# Altium schematic symbol library 集成电路.SchLib: 67 symbols
Pins are listed as number, name and electrical type; pins without a type are passive.

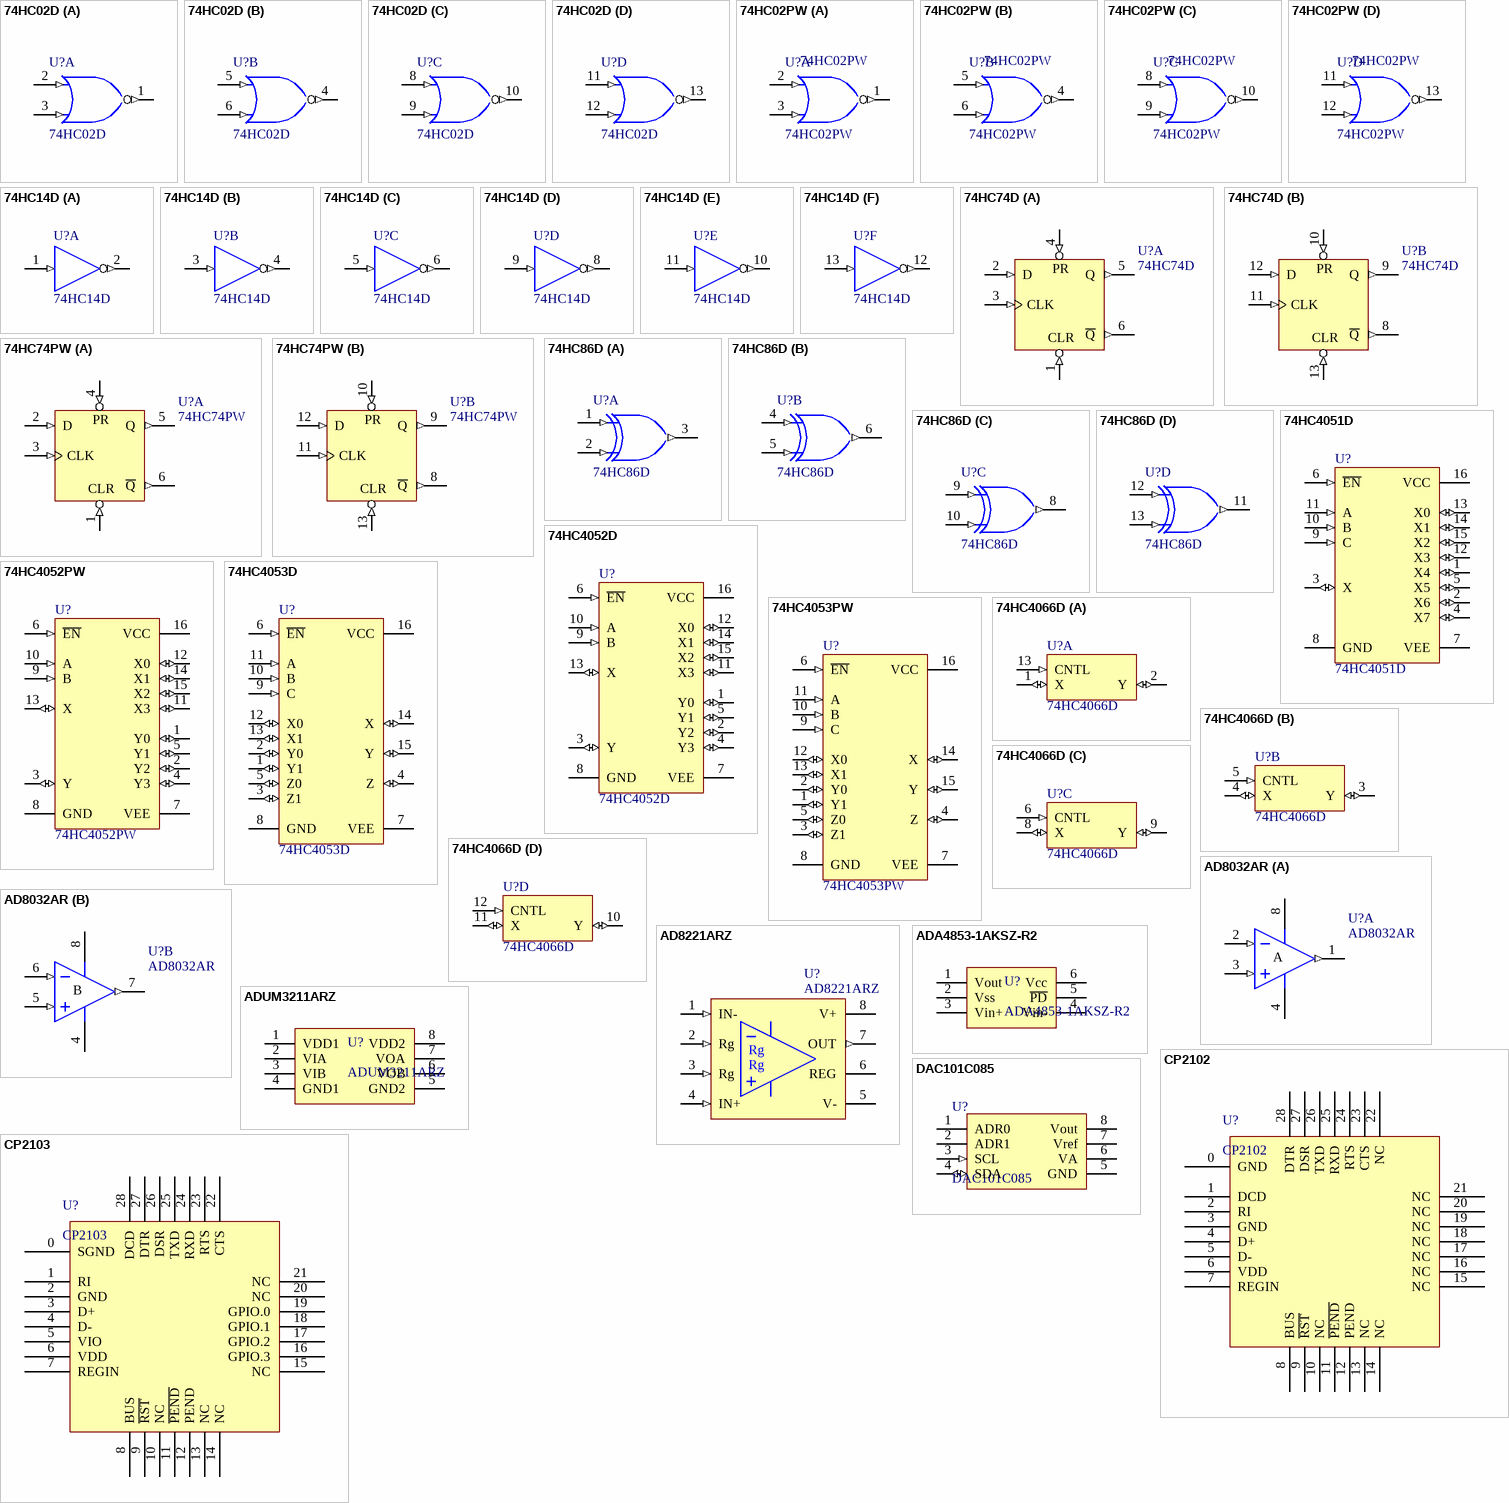
[diagram p0: symbols 74HC02D to DAC101C085]

## 74HC02D
designator U?
Pb-free,74HC系列4路2输入或非门,74HC02D,SO-14,-40~+125℃,NXP; Part Number: 3DZ0020004; specification: Pb-free,74HC系列4路2输入或非门,74HC02D,SO-14,-40~+125℃,NXP; Value: 74HC02D
footprint SO-14
pins on every part: 7 GND (power) hidden to GND, 14 VCC (power) hidden to VCC
part A pins: 1 Y (out), 2 A (in), 3 B (in)
part B pins: 4 Y (out), 5 A (in), 6 B (in)
part C pins: 8 A (in), 9 B (in), 10 Y (out)
part D pins: 11 A (in), 12 B (in), 13 Y (out)

## 74HC02PW
designator U?
Pb-free,74HC系列4路2输入或非门,74HC02PW,TSSOP-14,-40~+125℃,NXP; Part Number: 3DZ0020088; specification: Pb-free,74HC系列4路2输入或非门,74HC02PW,TSSOP-14,-40~+125℃,NXP; Value: 74HC02PW
footprint TSSOP14
pins on every part: 7 GND (power) hidden to GND, 14 VCC (power) hidden to VCC
part A pins: 1 Y (out), 2 A (in), 3 B (in)
part B pins: 4 Y (out), 5 A (in), 6 B (in)
part C pins: 8 A (in), 9 B (in), 10 Y (out)
part D pins: 11 A (in), 12 B (in), 13 Y (out)

## 74HC14D
designator U?
Pb-free,74HC系列6路施密特触发器,74HC14D,SO-14,-40~+125℃,NXP; Part Number: 3DZ0020005; Value: 74HC14D; Specification: Pb-free,74HC系列6路施密特触发器,74HC14D,SO-14,-40~+125℃,NXP
footprint SO-14
pins on every part: 7 GND (power) hidden to GND, 14 VCC (power) hidden to VCC
part A pins: 1 A (in), 2 Y (out)
part B pins: 3 A (in), 4 Y (out)
part C pins: 5 A (in), 6 Y (out)
part D pins: 8 Y (out), 9 A (in)
part E pins: 10 Y (out), 11 A (in)
part F pins: 12 Y (out), 13 A (in)

## 74HC74D
designator U?
Pb-free,74HC系列2路D触发器,74HC74D,,SO-14,-40~+125℃,NXP; Part Number: 3DZ0020013; Specification: Pb-free,74HC系列2路D触发器,74HC74D,,SO-14,-40~+125℃,NXP; Value: 74HC74D
footprint SO-14
pins on every part: 7 GND (power) hidden to GND, 14 VDD (power) hidden to VDD
part A pins: 1 CLR (in), 2 D (in), 3 CLK (in), 4 PR (in), 5 Q (out), 6 ~{Q} (out)
part B pins: 8 ~{Q} (out), 9 Q (out), 10 PR (in), 11 CLK (in), 12 D (in), 13 CLR (in)

## 74HC74PW
designator U?
Pb-free,74HC系列2路D触发器,74HC74PW,TSSOP-14,-40~+125℃,NXP; Part Number: 3DZ0020089; Specification: Pb-free,74HC系列2路D触发器,74HC74PW,TSSOP-14,-40~+125℃,NXP; Value: 74HC74PW
footprint TSSOP14
pins on every part: 7 GND (power) hidden to GND, 14 VDD (power) hidden to VDD
part A pins: 1 CLR (in), 2 D (in), 3 CLK (in), 4 PR (in), 5 Q (out), 6 ~{Q} (out)
part B pins: 8 ~{Q} (out), 9 Q (out), 10 PR (in), 11 CLK (in), 12 D (in), 13 CLR (in)

## 74HC86D
designator U?
Pb-free,74HC系列4路2输入异或门,74HC86D,SO-14,-40~+125℃,NXP; Part Number: 3DZ0020014; Specification: Pb-free,74HC系列4路2输入异或门,74HC86D,SO-14,-40~+125℃,NXP; Value: 74HC86D
footprint SO-14
pins on every part: 7 GND (power) hidden to GND, 14 VDD (power) hidden to VDD
part A pins: 1 A (in), 2 B (in), 3 Y (out)
part B pins: 4 A (in), 5 B (in), 6 Y (out)
part C pins: 8 Y (out), 9 A (in), 10 B (in)
part D pins: 11 Y (out), 12 A (in), 13 B (in)

## 74HC4051D
designator U?
Pb-free,74HC系列8:1模拟开关,74HC4051D,Vcc-Vss=10V(MAX),SO-16,-40~+125℃,NXP; Part Number: 3DZ0020009; Value: 74HC4051D; Specification: Pb-free,74HC系列8:1模拟开关,74HC4051D,Vcc-Vss=10V(MAX),SO-16,-40~+125℃,NXP
footprint SO-16 (Small Outline; 16 Leads; Body Width 5.6 mm; Pitch 1.27 mm)
pins: 1 X4 (io), 2 X6 (io), 3 X (io), 4 X7 (io), 5 X5 (io), 6 ~{EN} (in), 7 VEE (power), 8 GND (power), 9 C (in), 10 B (in), 11 A (in), 12 X3 (io), 13 X0 (io), 14 X1 (io), 15 X2 (io), 16 VCC (power)

## 74HC4052D
designator U?
Pb-free,74HC系列2组4:1模拟开关,74HC4052D,Vcc-Vss=10V(MAX),SO-16,-40~+125℃,NXP; Part Number: 3DZ0020010; specification: Pb-free,74HC系列2组4:1模拟开关,74HC4052D,Vcc-Vss=10V(MAX),SO-16,-40~+125℃,NXP; Value: 74HC4052D
footprint SO-16 (Small Outline; 16 Leads; Body Width 5.6 mm; Pitch 1.27 mm)
pins: 1 Y0 (io), 2 Y2 (io), 3 Y (io), 4 Y3 (io), 5 Y1 (io), 6 ~{EN} (in), 7 VEE (power), 8 GND (power), 9 B (in), 10 A (in), 11 X3 (io), 12 X0 (io), 13 X (io), 14 X1 (io), 15 X2 (io), 16 VCC (power)

## 74HC4052PW
designator U?
Pb-free,74HC系列2组4:1模拟开关,74HC4052PW,Vcc-Vss=10V(MAX),TSSOP-16,-40~+125℃,NXP; Part Number: 3DZ0020090; specification: Pb-free,74HC系列2组4:1模拟开关,74HC4052PW,Vcc-Vss=10V(MAX),TSSOP-16,-40~+125℃,NXP; Value: 74HC4052PW
footprint TSSOP16
pins: 1 Y0 (io), 2 Y2 (io), 3 Y (io), 4 Y3 (io), 5 Y1 (io), 6 ~{EN} (in), 7 VEE (power), 8 GND (power), 9 B (in), 10 A (in), 11 X3 (io), 12 X0 (io), 13 X (io), 14 X1 (io), 15 X2 (io), 16 VCC (power)

## 74HC4053D
designator U?
Pb-free,74HC系列3组2:1模拟开关,74HC4053D,Vcc-Vss=10V(MAX),SO-16,-40~+125℃,NXP; Part Number: 3DZ0020011; specification: Pb-free,74HC系列3组2:1模拟开关,74HC4053D,Vcc-Vss=10V(MAX),SO-16,-40~+125℃,NXP; Value: 74HC4053D
footprint SO-16 (Small Outline; 16 Leads; Body Width 5.6 mm; Pitch 1.27 mm)
pins: 1 Y1 (io), 2 Y0 (io), 3 Z1 (io), 4 Z (io), 5 Z0 (io), 6 ~{EN} (in), 7 VEE (power), 8 GND (power), 9 C (in), 10 B (in), 11 A (in), 12 X0 (io), 13 X1 (io), 14 X (io), 15 Y (io), 16 VCC (power)

## 74HC4053PW
designator U?
Pb-free,74HC系列3组2:1模拟开关,74HC4053PW,Vcc-Vss=10V(MAX),TSSOP-16,-40~+125℃,NXP; Part Number: 3DZ0020091; specification: Pb-free,74HC系列3组2:1模拟开关,74HC4053PW,Vcc-Vss=10V(MAX),TSSOP-16,-40~+125℃,NXP; Value: 74HC4053PW
footprint TSSOP16
pins: 1 Y1 (io), 2 Y0 (io), 3 Z1 (io), 4 Z (io), 5 Z0 (io), 6 ~{EN} (in), 7 VEE (power), 8 GND (power), 9 C (in), 10 B (in), 11 A (in), 12 X0 (io), 13 X1 (io), 14 X (io), 15 Y (io), 16 VCC (power)

## 74HC4066D
designator U?
Pb-free,74HC系列4组1:1模拟开关,74HC4066D,Vcc-Vss=10V(MAX),SO-14,-40~+125℃,NXP; Part Number: 3DZ0020012; specification: Pb-free,74HC系列4组1:1模拟开关,74HC4066D,Vcc-Vss=10V(MAX),SO-14,-40~+125℃,NXP; Value: 74HC4066D
footprint SO-14
pins on every part: 7 GND (power) hidden to GND, 14 VCC (power) hidden to VCC
part A pins: 1 X (io), 2 Y (io), 13 CNTL (in)
part B pins: 3 Y (io), 4 X (io), 5 CNTL (in)
part C pins: 6 CNTL (in), 8 X (io), 9 Y (io)
part D pins: 10 Y (io), 11 X (io), 12 CNTL (in)

## AD8032AR
designator U?
Pb-free,低压轨至轨双运放,AD8032AR,800 uA,带宽:80MHz,低噪运放,电源:+2.7V,+5V,±5V,SOIC-8,-40~+85℃,ADI; Part Number: 3DZ0020015; Specification: 'Pb-free,低压轨至轨双运放,AD8032AR,800 uA,带宽:80MHz,低噪运放,电源:+2.7V,+5V,±5V,SOIC-8,-40~+85℃,ADI; Value: AD8032AR
footprint SO-8 (Small Outline; 8 Leads; Body Width 3.9 mm; Pitch 1.27 mm)
pins on every part: 4 V- (power), 8 V+ (power)
part A pins: 1 OUT (out), 2 IN- (in), 3 IN+ (in)
part B pins: 5 IN+ (in), 6 IN- (in), 7 OUT (out)
part A text: A
part B text: B

## AD8221ARZ
designator U?
Pb-free,增益可调精密仪表放大器,AD8221ARZ,带宽:825kHz(G=1),输入阻抗：100GΩ?pF,低噪运放,电源:±2.3V~±18V,SOIC-8,-40~+85℃,ADI; Part Number: 3DZ0020016; Specification: 'Pb-free,增益可调精密仪表放大器,AD8221ARZ,带宽:825kHz(G=1),输入阻抗：100GΩ?pF,低噪运放,电源:±2.3V~±18V,SOIC-8,-40~+85℃,ADI; Value: AD8221ARZ
footprint SO-8 (Small Outline; 8 Leads; Body Width 3.9 mm; Pitch 1.27 mm)
pins: 1 IN- (in), 2 Rg (in), 3 Rg (in), 4 IN+ (in), 5 V- (power), 6 REG, 7 OUT (out), 8 V+ (power)

## ADA4853-1AKSZ-R2
designator U?
Pb-free,低功耗轨至轨单运放,ADA4853-1AKSZ-R2,带宽:100MHz,低噪运放,电源:+2.65V~+5V,SOT23-6,-40~+85℃,ADI; Part Number: 3DZ0020017; Specification: 'Pb-free,低功耗轨至轨单运放,ADA4853-1AKSZ-R2,带宽:100MHz,低噪运放,电源:+2.65V~+5V,SOT23-6,-40~+85℃,ADI; Value: ADA4853-1AKSZ-R2
footprint SOT23-6 (SOT-23/SC-74A; 5 Leads; Body 3.1 x 3 mm, inc. leads (LxW max))
pins: 1 Vout, 2 Vss, 3 Vin+, 4 Vin-, 5 ~{PD}, 6 Vcc

## ADUM3211ARZ
designator U?
Pb-free,双通道数字隔离器,ADUM3211ARZ,电源：?0.5Vto+7.0V,SO-8,?40°C~+105°C,ADI; Part Number: 3DZ0020072; Value: ADUM3211ARZ; Specification: Pb-free,双通道数字隔离器,ADUM3211ARZ,电源：?0.5Vto+7.0V,SO-8,?40°C~+105°C,ADI
footprint SO-8 (Small Outline; 8 Leads; Body Width 3.9 mm; Pitch 1.27 mm)
pins: 1 VDD1, 2 VIA, 3 VIB, 4 GND1, 5 GND2, 6 VOB, 7 VOA, 8 VDD2

## CP2102
designator U?
Pb-free,USB~UART转换芯片,CP2102,USB2.0(12Mbps),QFN-28,–40~+85°C,Siliconlabs; Part Number: 3DZ0020022; Specification: Pb-free,USB~UART转换芯片,CP2102,USB2.0(12Mbps),QFN-28,–40~+85°C,Siliconlabs; Value: CP2102
footprint QFN28_5*5
pins: 0 GND, 1 DCD, 2 RI, 3 GND, 4 D+, 5 D-, 6 VDD, 7 REGIN, 8 BUS, 9 ~{RST}, 10 NC, 11 ~{PEND}, 12 PEND, 13 NC, 14 NC, 15 NC, 16 NC, 17 NC, 18 NC, 19 NC, 20 NC, 21 NC, 22 NC, 23 CTS, 24 RTS, 25 RXD, 26 TXD, 27 DSR, 28 DTR

## CP2103
designator U?
Pb-free,USB~UART转换芯片,CP2102,USB2.0(12Mbps),QFN-28,–40~+85°C,Siliconlabs; Part Number: 3DZ0020023; Specification: Pb-free,USB~UART转换芯片,CP2103,USB2.0(12Mbps),QFN-28,–40~+85°C,Siliconlabs; Value: CP2103
footprint QFN28_5*5
pins: 0 SGND, 1 RI, 2 GND, 3 D+, 4 D-, 5 VIO, 6 VDD, 7 REGIN, 8 BUS, 9 ~{RST}, 10 NC, 11 ~{PEND}, 12 PEND, 13 NC, 14 NC, 15 NC, 16 GPIO.3, 17 GPIO.2, 18 GPIO.1, 19 GPIO.0, 20 NC, 21 NC, 22 CTS, 23 RTS, 24 RXD, 25 TXD, 26 DSR, 27 DTR, 28 DCD

## DAC101C085
designator U?
Pb-free,10位DAC,DAC101C085,接口:IIC,电源:(+2.7V~+5.5V),VSSOP-8,?40°C~+125°C,TI; Part Number: 3DZ0020024; Specification: 'Pb-free,10位DAC,DAC101C085,接口:IIC,电源:(+2.7V~+5.5V),VSSOP-8,?40°C~+125°C,TI; Value: DAC101C085
footprint TSSOP8
pins: 1 ADR0 (oc), 2 ADR1 (oc), 3 SCL (in), 4 SDA (io), 5 GND (power), 6 VA (power), 7 GND (power) hidden to GND, 7 Vref (power), 8 Vout (power), 14 VDD (power) hidden to VDD

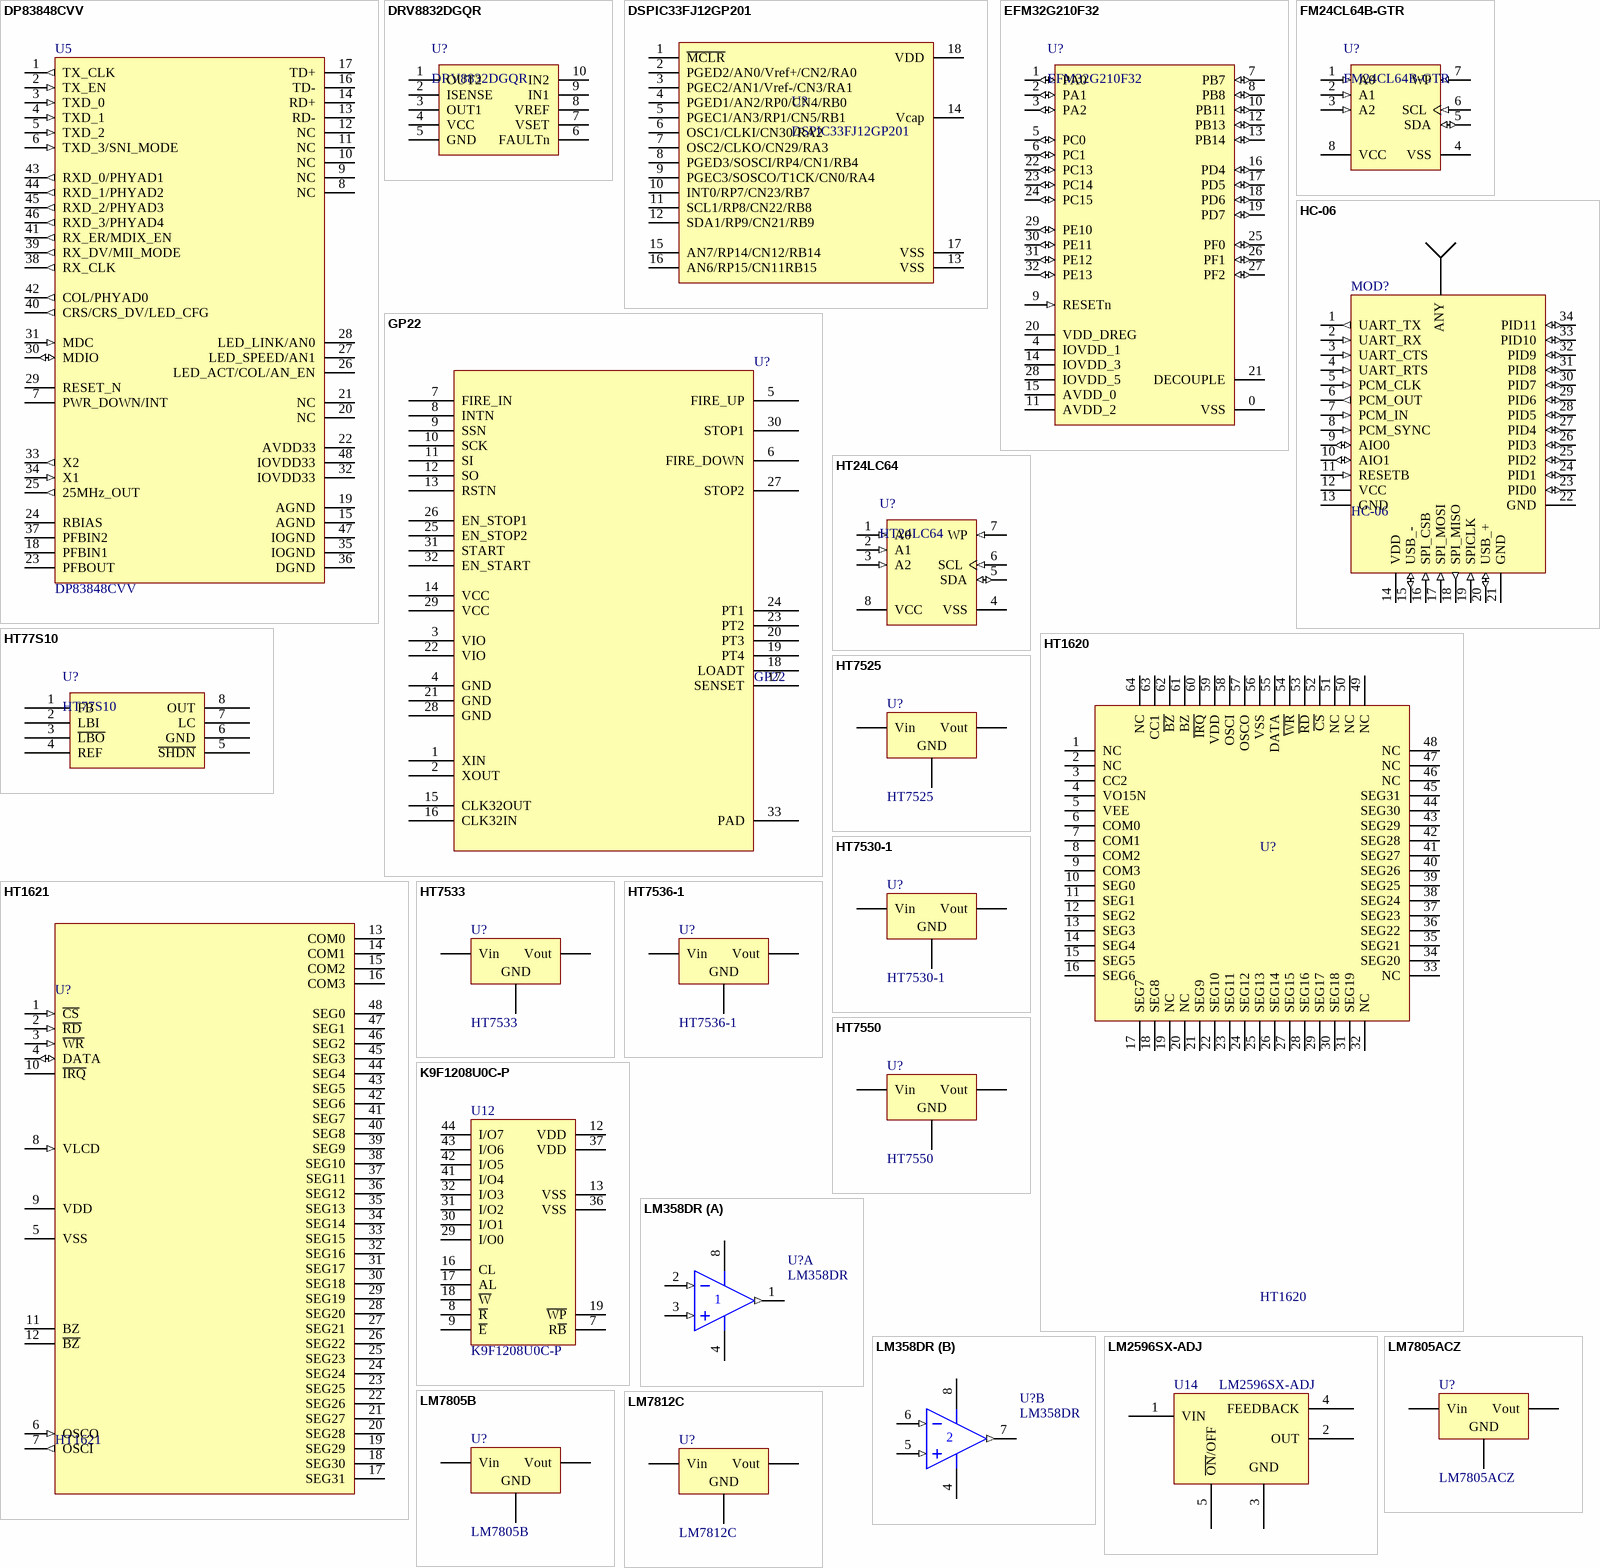
[diagram p1: symbols DP83848CVV to LM7812C]

## DP83848CVV
designator U5
Pb-free,以太网PHY控制器芯片,DP83848CVV,10/100Mb/s,; Part Number: 3DZ0020101; Specification: Pb-free,以太网PHY控制器芯片,DP83848CVV,10/100Mb/s,; Value: DP83848CVV
footprint TQFP-48-0.5 (Thin QFP, 48-Leads, Body 7x7mm, Pitch 0.5mm, IPC Medium Density)
pins: 1 TX_CLK (out), 2 TX_EN (in), 3 TXD_0 (in), 4 TXD_1 (in), 5 TXD_2 (in), 6 TXD_3/SNI_MODE (in), 7 PWR_DOWN/INT, 8 NC, 9 NC, 10 NC, 11 NC, 12 NC, 13 RD-, 14 RD+, 15 AGND, 16 TD-, 17 TD+, 18 PFBIN1, 19 AGND, 20 NC, 21 NC, 22 AVDD33, 23 PFBOUT, 24 RBIAS, 25 25MHz_OUT (out), 26 LED_ACT/COL/AN_EN, 27 LED_SPEED/AN1, 28 LED_LINK/AN0, 29 RESET_N, 30 MDIO (io), 31 MDC (in), 32 IOVDD33, 33 X2 (out), 34 X1 (in), 35 IOGND, 36 DGND, 37 PFBIN2, 38 RX_CLK (out), 39 RX_DV/MII_MODE (out), 40 CRS/CRS_DV/LED_CFG (out), 41 RX_ER/MDIX_EN (out), 42 COL/PHYAD0 (out), 43 RXD_0/PHYAD1 (out), 44 RXD_1/PHYAD2 (out), 45 RXD_2/PHYAD3 (out), 46 RXD_3/PHYAD4 (out), 47 IOGND, 48 IOVDD33

## DRV8832DGQR
designator U?
Pb-free,有刷直流电机驱动,DRV8832DGQR,2.75V~6.8V,1A,MSOP-PowerPAD,-40~85°C,TI; Part Number: 3DZ0020076; Value: DRV8832DGQR; Specification: Pb-free,有刷直流电机驱动,DRV8832DGQR,2.75V~6.8V,1A,MSOP-PowerPAD,-40~85°C,TI
footprint TSSOP10
pins: 1 OUT2, 2 ISENSE, 3 OUT1, 4 VCC, 5 GND, 6 FAULTn, 7 VSET, 8 VREF, 9 IN1, 10 IN2

## DSPIC33FJ12GP201
designator U?
Pb-free,DSP处理器,DSPIC33FJ12GP201-1,40MIPS,SO-18,-40~+85℃,Microchip; Part Number: 3DZ0020069; Value: DSPIC33FJ12GP201; Specification: Pb-free,DSP处理器,DSPIC33FJ12GP201-1,40MIPS,SO-18,-40~+85℃,Microchip
footprint SO-18
pins: 1 ~{MCLR}, 2 PGED2/AN0/Vref+/CN2/RA0, 3 PGEC2/AN1/Vref-/CN3/RA1, 4 PGED1/AN2/RP0/CN4/RB0, 5 PGEC1/AN3/RP1/CN5/RB1, 6 OSC1/CLKI/CN30/RA2, 7 OSC2/CLKO/CN29/RA3, 8 PGED3/SOSCI/RP4/CN1/RB4, 9 PGEC3/SOSCO/T1CK/CN0/RA4, 10 INT0/RP7/CN23/RB7, 11 SCL1/RP8/CN22/RB8, 12 SDA1/RP9/CN21/RB9, 13 VSS, 14 Vcap, 15 AN7/RP14/CN12/RB14, 16 AN6/RP15/CN11RB15, 17 VSS, 18 VDD

## EFM32G210F32
designator U?
Pb-free,32位CortexM3ARM,EFM32TG210F32,32MHz,32KBfalsh,4KRAM,Vcc=1.85~3.8V,QFN-32,-40~85°C,SiliconLabs; Part Number: 3DZ0020085; Specification: Pb-free,32位CortexM3ARM,EFM32TG210F32,32MHz,32KBfalsh,4KRAM,Vcc=1.85~3.8V,QFN-32,-40~85°C,SiliconLabs; Value: EFM32G210F32
footprint QFN32_5*5
pins: 0 VSS (power) "Ground", 1 PA0 (io) "TIM0_CC0#0/1, I2C0_SDA#0", 2 PA1 (io) "TIM0_CC1#0/1, I2C0_SCL#0, CMU_CLK1#0", 3 PA2 (io) "TIM0_CC2#0/1, CMU_CLK0#0", 4 IOVDD_1 (power) "Digital IO power supply 1.", 5 PC0 (io) "ACMP0_CH0, PCNT0_S0IN#2, US1_TX#0", 6 PC1 (io) "ACMP0_CH1, PCNT0_S1IN#2, US1_RX#0", 7 PB7 (io) "LFXTAL_P, US1_CLK#0", 8 PB8 (io) "LFXTAL_N, US1_CS#0", 9 RESETn (in) "Reset input. Active low, with internal pull-up.", 10 PB11 (io) "DAC0_OUT0, LETIM0_OUT0#1", 11 AVDD_2 (power) "Analog power supply 2 .", 12 PB13 (io) "HFXTAL_P, LEU0_TX#1", 13 PB14 (io) "HFXTAL_N, LEU0_RX#1", 14 IOVDD_3 (power) "Digital IO power supply 3.", 15 AVDD_0 (power) "Analog power supply 0.", 16 PD4 (io) "ADC0_CH4, LEU0_TX#0", 17 PD5 (io) "ADC0_CH5, LEU0_RX#0", 18 PD6 (io) "ADC0_CH6, LETIM0_OUT0#0, I2C0_SDA#1", 19 PD7 (io) "ADC0_CH7, LETIM0_OUT1#0, I2C0_SCL#1", 20 VDD_DREG (power) "Power supply for on-chip voltage regulator.", 21 DECOUPLE "Decouple output for on-chip voltage regulator. An external capacitance of size CDECOUPLE is required at this pin.", 22 PC13 (io) "ACMP1_CH5, TIM0_CDTI0#1/3, TIM1_CC0#0, PCNT0_S0IN#0", 23 PC14 (io) "ACMP1_CH6, TIM0_CDTI1#1/3, TIM1_CC1#0, PCNT0_S1IN#0", 24 PC15 (io) "ACMP1_CH7, TIM0_CDTI2#1/3, TIM1_CC2#0, DBG_SWO#1", 25 PF0 (io) "LETIM0_OUT0#2, DBG_SWCLK#0/1", 26 PF1 (io) "LETIM0_OUT1#2, DBG_SWDIO#0/1", 27 PF2 (io) "ACMP1_O#0, DBG_SWO#0", 28 IOVDD_5 (power) "Digital IO power supply 5.", 29 PE10 (io) "TIM1_CC0#1, US0_TX#0", 30 PE11 (io) "TIM1_CC1#1, US0_RX#0", 31 PE12 (io) "TIM1_CC2#1, US0_CLK#0", 32 PE13 (io) "US0_CS#0, ACMP0_O#0"

## FM24CL64B-GTR
designator U?
Pb-free,铁电存储器,FM24CL64B-GTR,接口:IIC,Vcc电压2.7~3.6V,最大时钟频率400kHZ,SO-8; Part Number: 3DZ0020026; Specification: Pb-free,铁电存储器,FM24CL64B-GTR,接口:IIC,Vcc电压2.7~3.6V,最大时钟频率400kHZ,SO-8; Value: FM24CL64B-GTR
footprint SO-8 (Small Outline; 8 Leads; Body Width 3.9 mm; Pitch 1.27 mm)
footprint SOIC-SN8_L (SOIC, 8-Leads, Body 4.9x3.8mm, Pitch 1.27mm, IPC High Density)
footprint SOIC-SN8_M (SOIC, 8-Leads, Body 4.9x3.8mm, Pitch 1.27mm, IPC Low Density)
pins: 1 A0 (in), 2 A1 (in), 3 A2 (in), 4 VSS (power), 5 SDA (io), 6 SCL (in), 7 WP (in), 8 VCC (power)

## GP22
designator U?
Pb-free,时间数字转换芯片,TDC-GP22,单精度90pS（双精度45ps,四精度22pS）,测量范围：500ns~4ms,QFN32,?40°C~+125°C,ACAM; Part Number: 3DZ0020073; Specification: Pb-free,时间数字转换芯片,TDC-GP22,单精度90pS（双精度45ps,四精度22pS）,测量范围：500ns~4ms,QFN32,?40°C~+125°C,ACAM; Value: GP22
footprint QFN32_5*5
pins: 1 XIN, 2 XOUT, 3 VIO, 4 GND, 5 FIRE_UP, 6 FIRE_DOWN, 7 FIRE_IN, 8 INTN, 9 SSN, 10 SCK, 11 SI, 12 SO, 13 RSTN, 14 VCC, 15 CLK32OUT, 16 CLK32IN, 17 SENSET, 18 LOADT, 19 PT4, 20 PT3, 21 GND, 22 VIO, 23 PT2, 24 PT1, 25 EN_STOP2, 26 EN_STOP1, 27 STOP2, 28 GND, 29 VCC, 30 STOP1, 31 START, 32 EN_START, 33 PAD

## HC-06
designator MOD?
Pb-free,蓝牙通讯模块,HC-06,蓝牙2.0+EDR,内置2.4G天线,8Mflash,接口：PIO,UART,USB(USB1.1/USB2.0),27*13*2(mm),-25~75℃; Part Number: 3DZ9990205; specification: Pb-free,蓝牙通讯模块,HC-06,蓝牙2.0+EDR,内置2.4G天线,8Mflash,接口：PIO,UART,USB(USB1.1/USB2.0),27*13*2(mm),-25~75℃; Value: HC-06
footprint HC-06 (Footprint not found)
pins: 1 UART_TX (out), 2 UART_RX (in), 3 UART_CTS (in), 4 UART_RTS (in), 5 PCM_CLK (in), 6 PCM_OUT (out), 7 PCM_IN (in), 8 PCM_SYNC (in), 9 AIO0 (io), 10 AIO1 (io), 11 RESETB (in), 12 VCC (oc), 13 GND (power), 14 VDD (power), 15 USB_- (io), 16 SPI_CSB (in), 17 SPI_MOSI (in), 18 SPI_MISO (out), 19 SPICLK (in), 20 USB_+ (io), 21 GND (power), 22 GND (power), 23 PID0 (io), 24 PID1 (io), 25 PID2 (io), 26 PID3 (io), 27 PID4 (io), 28 PID5 (io), 29 PID6 (io), 30 PID7 (io), 31 PID8 (io), 32 PID9 (io), 33 PID10 (io), 34 PID11 (io)
text: ANY

## HT24LC64
designator U?
Pb-free,EEPROM,HT24LC64,接口:IIC,Vcc电压1.8-5.5V,最大时钟频率1MHZ,SO-8,HT; Part Number: 3DZ0020030; Specification: Pb-free,EEPROM,HT24LC64,接口:IIC,Vcc电压1.8-5.5V,最大时钟频率1MHZ,SO-8,HT; Value: HT24LC64
footprint SO-8 (Small Outline; 8 Leads; Body Width 3.9 mm; Pitch 1.27 mm)
footprint SOIC-SN8_L (SOIC, 8-Leads, Body 4.9x3.8mm, Pitch 1.27mm, IPC High Density)
footprint SOIC-SN8_M (SOIC, 8-Leads, Body 4.9x3.8mm, Pitch 1.27mm, IPC Low Density)
pins: 1 A0 (in), 2 A1 (in), 3 A2 (in), 4 VSS (power), 5 SDA (io), 6 SCL (in), 7 WP (in), 8 VCC (power)

## HT77S10
designator U?
Pb-free,同步升压驱动,HT77S10,1A,Vin-max=5.5V,Vout=1.8~5.5V,开关频率500Hz,SO8,-40~85℃; Part Number: 3DZ0020092; Specification: Pb-free,同步升压驱动,HT77S10,1A,Vin-max=5.5V,Vout=1.8~5.5V,开关频率500Hz,SO8,-40~85℃; Value: HT77S10
footprint SO-8 (Small Outline; 8 Leads; Body Width 3.9 mm; Pitch 1.27 mm)
pins: 1 FB, 2 LBI, 3 ~{LBO}, 4 REF, 5 ~{SHDN}, 6 GND, 7 LC, 8 OUT

## HT1620
designator U?
Pb-free,液晶驱动芯片,HT1620,128段驱动（4*32）,接口：SPI,LQFP64,-25~75℃,合泰HT; Part Number: 3DZ0020093; Value: HT1620; Specification: Pb-free,液晶驱动芯片,HT1620,128段驱动（4*32）,接口：SPI,LQFP64,-25~75℃,合泰HT
footprint TQFP-64-0.4 (Thin QFP, 64-Leads, Body 7x7mm, Pitch 0.5mm, IPC Medium Density)
pins: 1 NC, 2 NC, 3 CC2, 4 VO15N, 5 VEE, 6 COM0, 7 COM1, 8 COM2, 9 COM3, 10 SEG0, 11 SEG1, 12 SEG2, 13 SEG3, 14 SEG4, 15 SEG5, 16 SEG6, 17 SEG7, 18 SEG8, 19 NC, 20 NC, 21 SEG9, 22 SEG10, 23 SEG11, 24 SEG12, 25 SEG13, 26 SEG14, 27 SEG15, 28 SEG16, 29 SEG17, 30 SEG18, 31 SEG19, 32 NC, 33 NC, 34 SEG20, 35 SEG21, 36 SEG22, 37 SEG23, 38 SEG24, 39 SEG25, 40 SEG26, 41 SEG27, 42 SEG28, 43 SEG29, 44 SEG30, 45 SEG31, 46 NC, 47 NC, 48 NC, 49 NC, 50 NC, 51 NC, 52 ~{CS}, 53 ~{RD}, 54 ~{WR}, 55 DATA, 56 VSS, 57 OSCO, 58 OSCI, 59 VDD, 60 ~{IRQ}, 61 BZ, 62 ~{BZ}, 63 CC1, 64 NC

## HT1621
designator U?
Pb-free,液晶驱动芯片,HT1621,128段驱动（4*32）,接口：SPI,TSSOP48,-25~75℃,合泰HT; Part Number: 3DZ0020097; Specification: Pb-free,液晶驱动芯片,HT1621,128段驱动（4*32）,接口：SPI,TSSOP48,-25~75℃,合泰HT; Value: HT1621
footprint TSSOP48 (TSSOP, 28-Leads, Body 8.1x11.9mm (max), Pitch 0.55mm, IPC Medium Density)
pins: 1 ~{CS} (in), 2 ~{RD} (in), 3 ~{WR} (in), 4 DATA (io), 5 VSS (power), 6 OSCO (in), 7 OSCI (out), 8 VLCD (in), 9 VDD (power), 10 ~{IRQ}, 11 BZ, 12 ~{BZ}, 13 COM0, 14 COM1, 15 COM2, 16 COM3, 17 SEG31, 18 SEG30, 19 SEG29, 20 SEG28, 21 SEG27, 22 SEG26, 23 SEG25, 24 SEG24, 25 SEG23, 26 SEG22, 27 SEG21, 28 SEG20, 29 SEG19, 30 SEG18, 31 SEG17, 32 SEG16, 33 SEG15, 34 SEG14, 35 SEG13, 36 SEG12, 37 SEG11, 38 SEG10, 39 SEG9, 40 SEG8, 41 SEG7, 42 SEG6, 43 SEG5, 44 SEG4, 45 SEG3, 46 SEG2, 47 SEG1, 48 SEG0

## HT7525
designator U?
Pb-free,HT7525,输出电压2.5V,最大输出电流100MA,最高输入电压24V,SOT-89,±5%,0~70℃; Part Number: 3DZ0021304; Value: HT7525; Specification: Pb-free,HT7525,输出电压2.5V,最大输出电流100MA,最高输入电压24V,SOT-89,±5%,0~70℃
footprint SOT-89-3
pins: 1 GND, 2 Vin, 3 Vout

## HT7530-1
designator U?
Pb-free,HT7530-1,输出电压3.0V,最大输出电流100MA,最高输入电压24V,SOT-89,±3%,0~70℃; Part Number: 3DZ0020306; Value: HT7530-1; Specification: Pb-free,HT7530-1,输出电压3.0V,最大输出电流100MA,最高输入电压24V,SOT-89,±3%,0~70℃
footprint SOT-89-3
pins: 1 GND, 2 Vin, 3 Vout

## HT7533
designator U?
Pb-free,HT7533,输出电压3.3V,最大输出电流100MA,最高输入电压24V,SOT-89,±5%,0~70℃; Part Number: 3DZ0020308; Value: HT7533; Specification: Pb-free,HT7533,输出电压3.3V,最大输出电流100MA,最高输入电压24V,SOT-89,±5%,0~70℃
footprint SOT-89-3
pins: 1 GND, 2 Vin, 3 Vout

## HT7536-1
designator U?
Pb-free,HT7536-1,输出电压3.6V,最大输出电流100MA,最高输入电压24V,SOT-89,±3%,0~70℃; Part Number: 3DZ0020301; Value: HT7536-1; Specification: Pb-free,HT7536-1,输出电压3.6V,最大输出电流100MA,最高输入电压24V,SOT-89,±3%,0~70℃
footprint SOT-89-3
pins: 1 GND, 2 Vin, 3 Vout

## HT7550
designator U?
Pb-free,HT7550,输出电压5.0V,最大输出电流100MA,最高输入电压24V,SOT-89,±5%,0~70℃; Part Number: 3DZ0020302; Value: HT7550; Specification: Pb-free,HT7550,输出电压5.0V,最大输出电流100MA,最高输入电压24V,SOT-89,±5%,0~70℃
footprint SOT-89-3
pins: 1 GND, 2 Vin, 3 Vout

## K9F1208U0C-P
designator U12
Pb-free,K9F1208U0C-P,64M*8bitnondflash,Vcc=2.7V~3.6V,TSOP48,-40to+125,samsung; Part Number: 3DZ0020078; Specification: Pb-free,K9F1208U0C-P,64M*8bitnondflash,Vcc=2.7V~3.6V,TSOP48,-40to+125,samsung; Value: K9F1208U0C-P
footprint TSSOP48W (TSSOP, 28-Leads, Body 8.1x11.9mm (max), Pitch 0.55mm, IPC Medium Density)
pins: 7 R~{B}, 8 ~{R}, 9 ~{E}, 12 VDD, 13 VSS, 16 CL, 17 AL, 18 ~{W}, 19 ~{WP}, 29 I/O0, 30 I/O1, 31 I/O2, 32 I/O3, 36 VSS, 37 VDD, 41 I/O4, 42 I/O5, 43 I/O6, 44 I/O7

## LM358DR
designator U?
Pb-free,通用双运放,LM358DR,带宽:0.7MHz,电源:(单)3V~32V,(双)±1.5~±16V,SO-8,0~+70℃,TI; Part Number: 3DZ0020033; Specification: Pb-free,通用双运放,LM358DR,带宽:0.7MHz,电源:(单)3V~32V,(双)±1.5~±16V,SO-8,0~+70℃,TI; Value: LM358DR
footprint SO-8 (Small Outline; 8 Leads; Body Width 3.9 mm; Pitch 1.27 mm)
pins on every part: 4 V- (power), 8 V+ (power)
part A pins: 1 OUT (out), 2 IN- (in), 3 IN+ (in)
part B pins: 5 IN+ (in), 6 IN- (in), 7 OUT (out)

## LM2596SX-ADJ
designator U14
Pb-Free,降压DCDC,LM2596sx-ADJ,3A,开关频率150K,最高输入电压45V,TO-263-5,-40~125℃; Part Number: 3DZ0020309; Specification: Pb-Free,降压DCDC,LM2596sx-ADJ,3A,开关频率150K,最高输入电压45V,TO-263-5,-40~125℃; Value: LM2596sx-ADJ
footprint TO-263-5
pins: 1 VIN, 2 OUT, 3 GND, 4 FEEDBACK, 5 ~{ON}/OFF

## LM7805ACZ
designator U?
Pb-free,LM78L05ACZ,Vin-max=35V,Vout=5V,100mA,TO-92,±5%,0°~125°C; Part Number: 3DZ0021303; Specification: Pb-free,LM78L05ACZ,Vin-max=35V,Vout=5V,100mA,TO-92,±5%,0°~125°C; Value: LM7805ACZ
footprint TO-226(TO-92)
pins: 1 Vin, 2 GND, 3 Vout

## LM7805B
designator U?
Pb-free,LM7805B,Vin-max=35V,Vout=5V,1.0A,TO-220,±5%,0°~125°C; Part Number: 3DZ0021301; Specification: Pb-free,LM7805B,Vin-max=35V,Vout=5V,1.0A,TO-220,±5%,0°~125°C; Value: LM7805B
footprint TO-220 (TO, Thru-Hole, Vertical, Heatsink Mounted; 3 In-Line Leads; Pitch 2.54 mm)
pins: 1 Vin, 2 GND, 3 Vout

## LM7812C
designator U?
Pb-free,LM7812C,Vin-max=35V,Vout=12V,1.0A,TO-220,±5%,0°~70°C; Part Number: 3DZ0021302; Specification: Pb-free,LM7812C,Vin-max=35V,Vout=12V,1.0A,TO-220,±5%,0°~70°C; Value: LM7812C
footprint TO-220 (TO, Thru-Hole, Vertical, Heatsink Mounted; 3 In-Line Leads; Pitch 2.54 mm)
pins: 1 Vin, 2 GND, 3 Vout

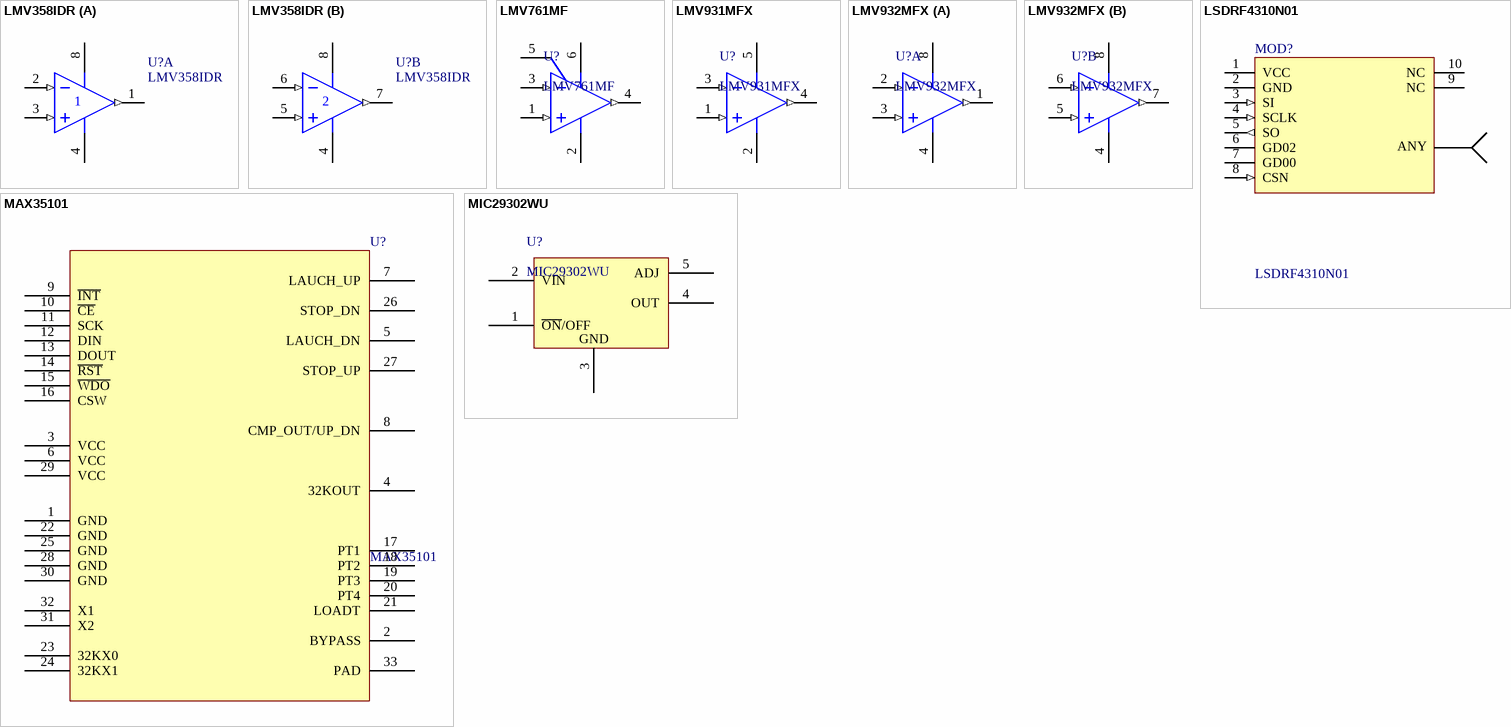
[diagram p2: symbols LMV358IDR to MIC29302WU]

## LMV358IDR
designator U?
Pb-free,通用双运放,LM358DR,带宽:0.7MHz,电源:(单)3V~32V,(双)±1.5~±16V,SO-8,0~+70℃,TI; Part Number: 3DZ0020082; Specification: Pb-free,双路低电压轨至轨输出运算放大器,LMV358IDR,带宽:1MHz,电源:(单)+2.7~+5.5V,SO-8,-45~+125℃,TI; Value: LMV358IDR
footprint SO-8 (Small Outline; 8 Leads; Body Width 3.9 mm; Pitch 1.27 mm)
pins on every part: 4 V- (power), 8 V+ (power)
part A pins: 1 OUT (out), 2 IN- (in), 3 IN+ (in)
part B pins: 5 IN+ (in), 6 IN- (in), 7 OUT (out)

## LMV761MF
designator U?
Pb-free,电压比较器,LMV761MFX,电源:Vcc-Vss：2.7~5.25V,SOT-23-6,?40°C~+125°C,TI; Part Number: 3DZ0020036; Specification: Pb-free,电压比较器,LMV761MFX,电源:Vcc-Vss：2.7~5.25V,SOT-23-6,?40°C~+125°C,TI; Value: LMV761MF
footprint SOT23-6 (SOT-23/SC-74A; 5 Leads; Body 3.1 x 3 mm, inc. leads (LxW max))
footprint MF06A_L (SOT23, 6-Leads, Body 2.9x1.6mm, Pitch 0.95mm, Lead Span 2.8mm, IPC High Density)
footprint MF06A_M (SOT23, 6-Leads, Body 2.9x1.6mm, Pitch 0.95mm, Lead Span 2.8mm, IPC Low Density)
pins: 1 IN+ (in), 2 V- (power), 3 IN- (in), 4 OUT (out), 5 ~{SD}, 6 V+ (power)

## LMV931MFX
designator U?
Pb-free,低功耗轨至轨输入单运放,LMV931MFX,带宽:1.4MHz,电源:+1.8V~+5.5V,SOT23-6,?40°C~+125°C,TI; Part Number: 3DZ0020037; Specification: Pb-free,低功耗轨至轨输入单运放,LMV931MFX,带宽:1.4MHz,电源:+1.8V~+5.5V,SOT23-6,?40°C~+125°C,TI; Value: LMV931MFX
footprint SOT23-5 (SOT-23/SC-74A; 5 Leads; Body 3.1 x 3 mm, inc. leads (LxW max))
footprint MF05A_L (SOT23, 5-Leads, Body 2.9x1.6mm, Pitch 0.95mm, Lead Span 2.8mm, IPC High Density)
footprint MF05A_M (SOT23, 5-Leads, Body 2.9x1.6mm, Pitch 0.95mm, Lead Span 2.8mm, IPC Low Density)
pins: 1 IN+ (in), 2 V- (power), 3 IN- (in), 4 OUT (out), 5 V+ (power)

## LMV932MFX
designator U?
Pb-free,低功耗轨至轨输入双运放,LMV932MFX,带宽:1.4MHz,电源:+1.8V~+5.5V,SO-8,?40°C~+125°C,TI; Part Number: 3DZ0020038; Specification: Pb-free,低功耗轨至轨输入双运放,LMV932MFX,带宽:1.4MHz,电源:+1.8V~+5.5V,SO-8,?40°C~+125°C,TI; Value: LMV932MFX
footprint SO-8 (Small Outline; 8 Leads; Body Width 3.9 mm; Pitch 1.27 mm)
footprint MUA08A_L (TSOP, 8-Leads, Body 3x3mm, Pitch 0.65mm, IPC High Density)
footprint MUA08A_M (TSOP, 8-Leads, Body 3x3mm, Pitch 0.65mm, IPC Low Density)
pins on every part: 4 V- (power), 8 V+ (power)
part A pins: 1 OUTA (out), 2 INA- (in), 3 INA+ (in)
part B pins: 5 INB+ (in), 6 INB- (in), 7 OUTB (out)

## LSDRF4310N01
designator MOD?
Pb-free,无线通讯模块,,LSDRF4310N01,工作频率:433±10MHz,FSK/GFSK,通讯接口:SPI,电压:2.0~3.6V,25*16.6mm,2.0mm*8pin,-20~70℃; Part Number: 3DZ9990202; specification: Pb-free,无线通讯模块,,LSDRF4310N01,工作频率:433±10MHz,FSK/GFSK,通讯接口:SPI,电压:2.0~3.6V,25*16.6mm,2.0mm*8pin,-20~70℃; Value: LSDRF4310N01
footprint LSDRF4310N01
pins: 1 VCC (power), 2 GND (power), 3 SI (in), 4 SCLK (in), 5 SO (out), 6 GD02 (oe), 7 GD00 (oc), 8 CSN (in), 9 NC (oe), 10 NC (oe)
text: ANY

## MAX35101
designator U?
Pb-free,时间数字转换芯片,TDC-GP22,单精度90pS（双精度45ps,四精度22pS）,测量范围：500ns~4ms,QFN32,?40°C~+125°C,ACAM; Part Number: 3DZ0020073; Value: GP22; Specification: Pb-free,时间数字转换芯片,TDC-GP22,单精度90pS（双精度45ps,四精度22pS）,测量范围：500ns~4ms,QFN32,?40°C~+125°C,ACAM
footprint TQFP-32-0.5-PAD (Thin QFP, 32-Leads, Body 5x5mm, Pitch 0.65mm, IPC Low Density)
pins: 1 GND, 2 BYPASS, 3 VCC, 4 32KOUT, 5 LAUCH_DN, 6 VCC, 7 LAUCH_UP, 8 CMP_OUT/UP_DN, 9 ~{INT}, 10 ~{CE}, 11 SCK, 12 DIN, 13 DOUT, 14 ~{RST}, 15 ~{WDO}, 16 CSW, 17 PT1, 18 PT2, 19 PT3, 20 PT4, 21 LOADT, 22 GND, 23 32KX0, 24 32KX1, 25 GND, 26 STOP_DN, 27 STOP_UP, 28 GND, 29 VCC, 30 GND, 31 X2, 32 X1, 33 PAD

## MIC29302WU
designator U?
Pb-free,低压差大电流稳压芯片,MIC29302WU,输出电压可调,3A,TO-263-5,?40°C~+125°C,micrel; Part Number: 3DZ0020081; Specification: Pb-free,低压差大电流稳压芯片,MIC29302WU,输出电压可调,3A,TO-263-5,?40°C~+125°C,micrel; Value: MIC29302WU
footprint TO-263-5
pins: 1 ~{ON}/OFF, 2 VIN, 3 GND, 4 OUT, 5 ADJ

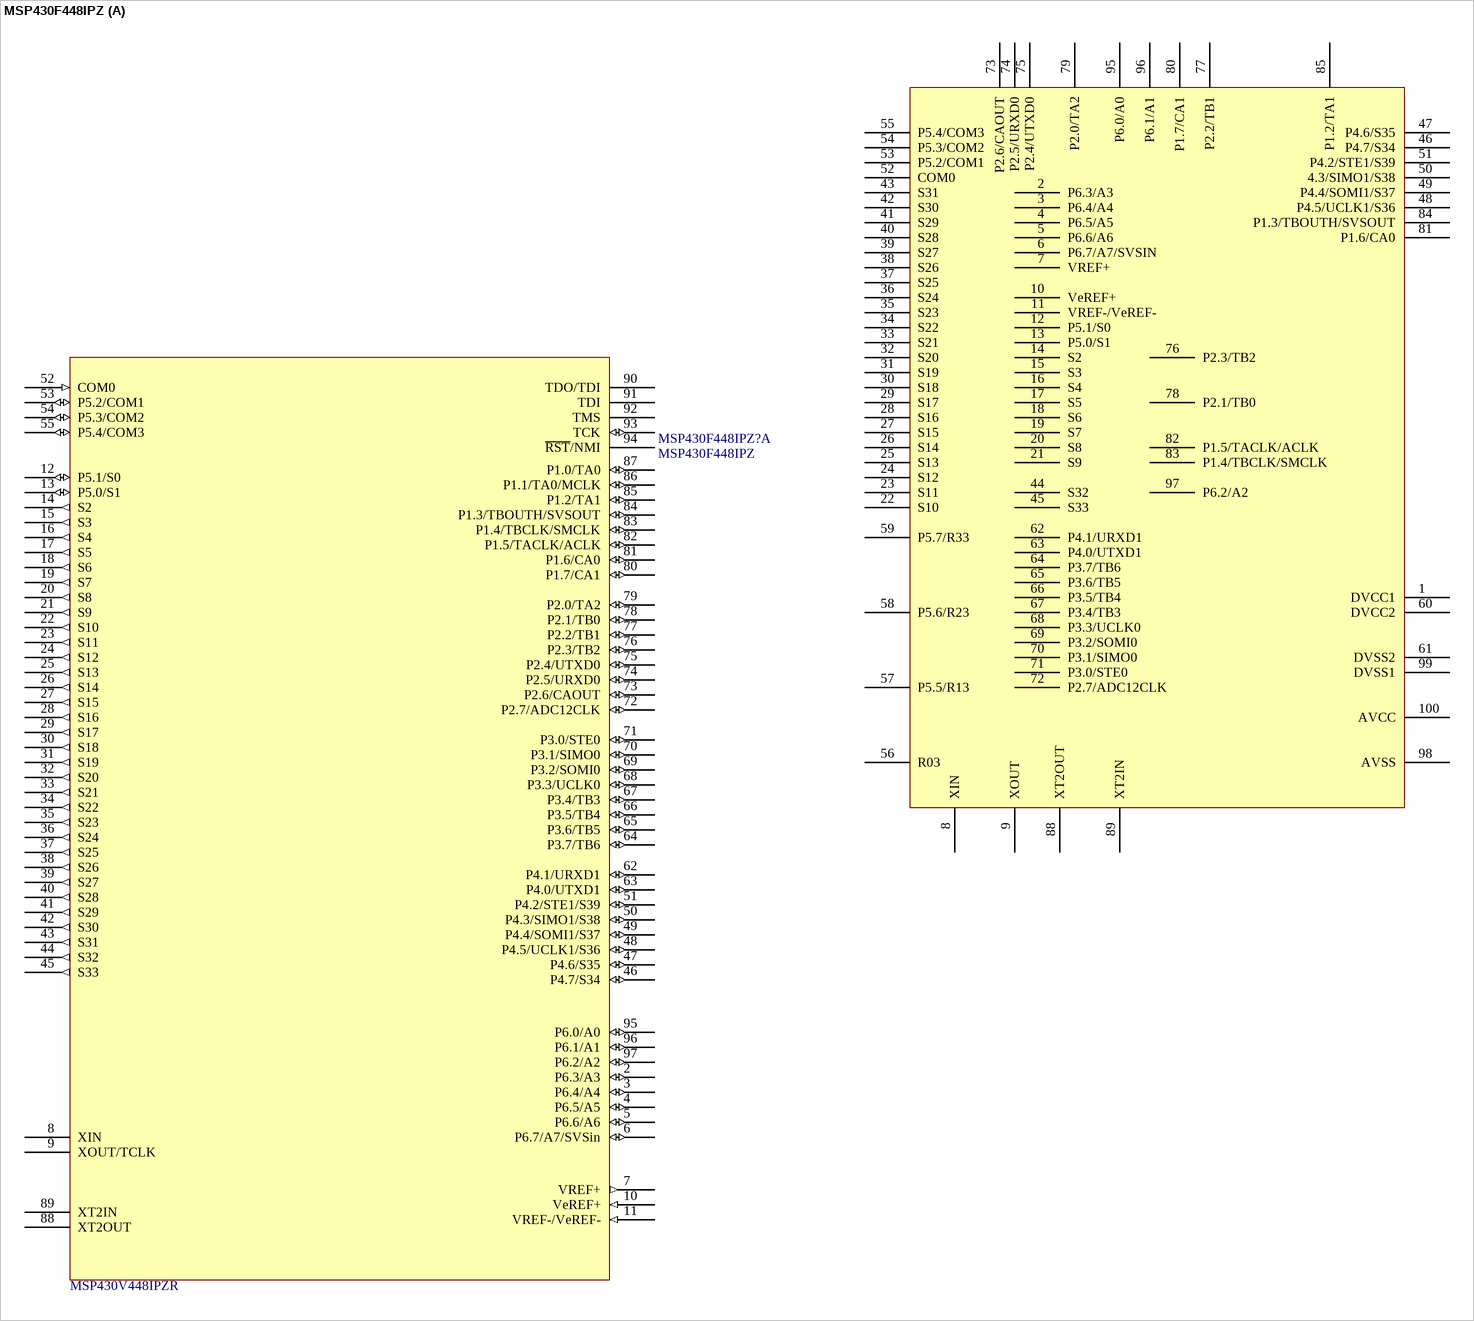
[diagram p3: symbol MSP430F448IPZ]

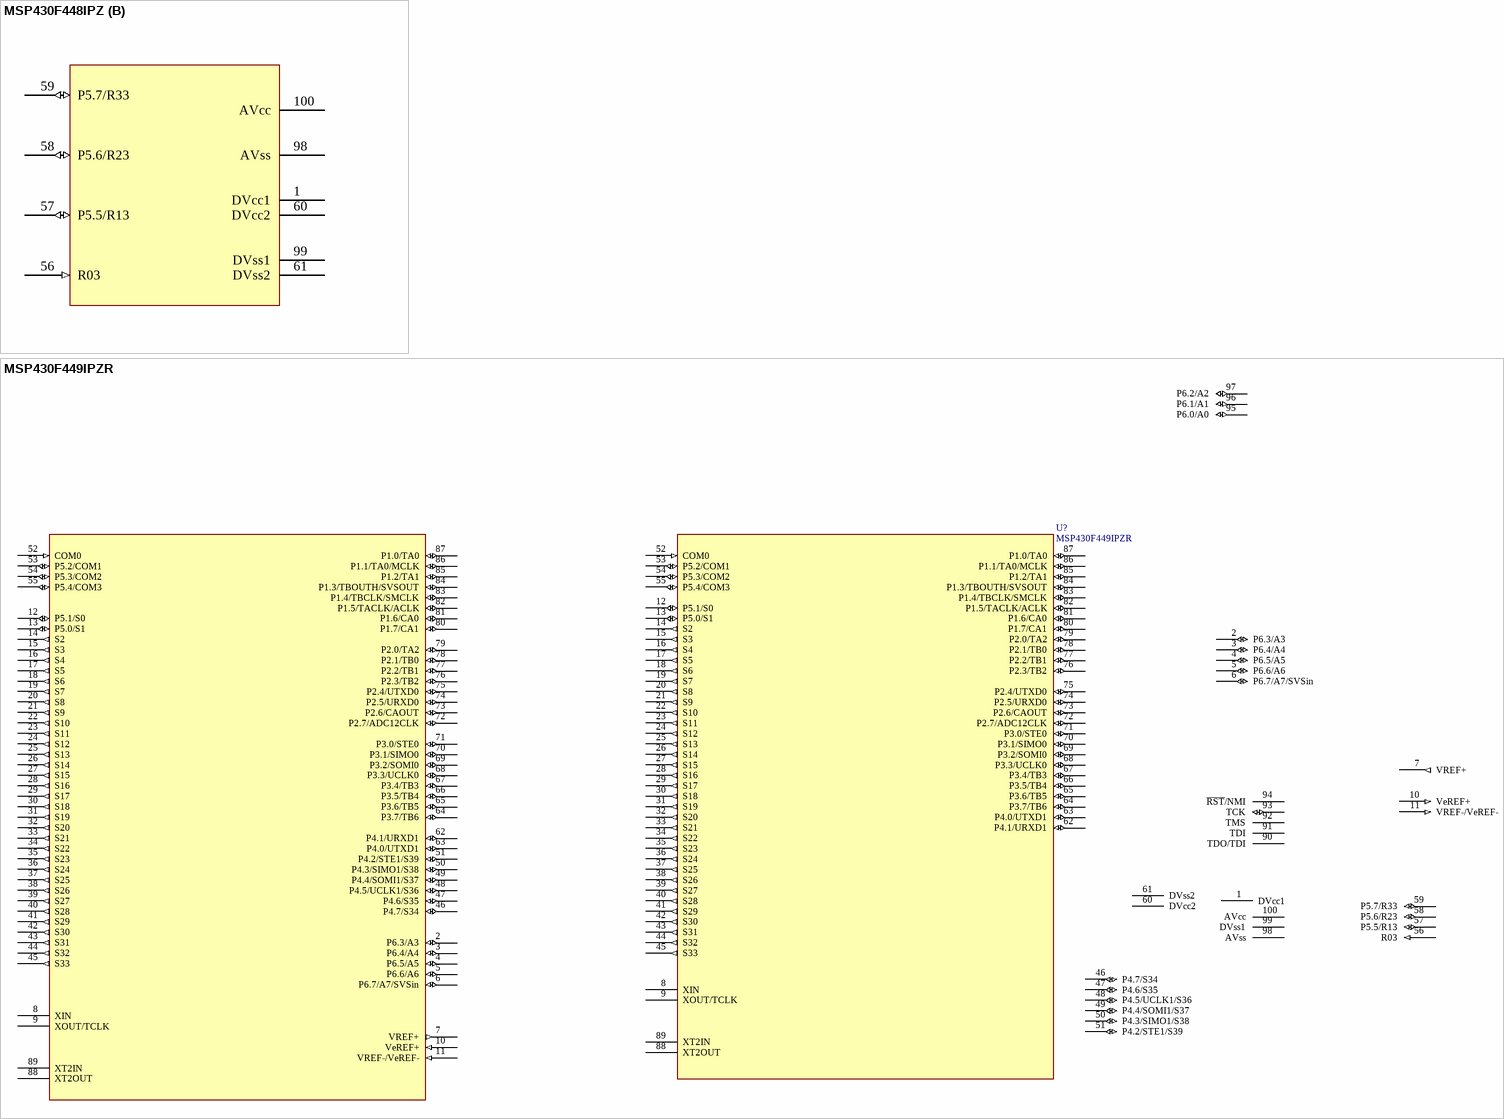
[diagram p4: symbols MSP430F448IPZ to MSP430F449IPZR]

## MSP430F448IPZ
designator MSP430F448IPZ?  value MSP430V448IPZR
Pb-free,16位MSP430单片机,MSP430V448IPZR,8MHz工作频率,160段液晶接口（4*36）,2个16位定时中断,12位ADC,48KBFlash,2KBSRAM,GPIO：56,LQRF100,-40~85°C,TI; Part Number: 3DZ0020075; Specification: Pb-free,16位MSP430单片机,MSP430V448IPZR,8MHz工作频率,160段液晶接口（4*36）,2个16位定时中断,12位ADC,48KBFlash,2KBSRAM,GPIO：56,LQRF100,-40~85°C,TI
footprint TQFP-100-0.5 (Thin QFP, 100-Leads, Body 14x14mm, Pitch 0.5mm, IPC Low Density)
part A pins: 1 DVCC1, 2 P6.3/A3 (io), 2 P6.3/A3, 3 P6.4/A4 (io), 3 P6.4/A4, 4 P6.5/A5 (io), 4 P6.5/A5, 5 P6.6/A6 (io), 5 P6.6/A6, 6 P6.7/A7/SVSin (io), 6 P6.7/A7/SVSIN, 7 VREF+ (out), 7 VREF+, 8 XIN, 8 XIN, 9 XOUT/TCLK, 9 XOUT, 10 VeREF+ (in), 10 VeREF+, 11 VREF-/VeREF- (in), 11 VREF-/VeREF-, 12 P5.1/S0 (io), 12 P5.1/S0, 13 P5.0/S1 (io), 13 P5.0/S1, 14 S2 (out), 14 S2, 15 S3 (out), 15 S3, 16 S4 (out), 16 S4, 17 S5 (out), 17 S5, 18 S6 (out), 18 S6, 19 S7 (out), 19 S7, 20 S8 (out), 20 S8, 21 S9 (out), 21 S9, 22 S10 (out), 22 S10, 23 S11 (out), 23 S11, 24 S12 (out), 24 S12, 25 S13 (out), 25 S13, 26 S14 (out), 26 S14, 27 S15 (out), 27 S15, 28 S16 (out), 28 S16, 29 S17 (out), 29 S17, 30 S18 (out), 30 S18, 31 S19 (out), 31 S19, 32 S20 (out), 32 S20, 33 S21 (out), 33 S21, 34 S22 (out), 34 S22, 35 S23 (out), 35 S23, 36 S24 (out), 36 S24, 37 S25 (out), 37 S25, 38 S26 (out), 38 S26, 39 S27 (out), 39 S27, 40 S28 (out), 40 S28, 41 S29 (out), 41 S29, 42 S30 (out), 42 S30, 43 S31 (out), 43 S31, 44 S32 (out), 44 S32, 45 S33 (out), 45 S33, 46 P4.7/S34 (io), 46 P4.7/S34, 47 P4.6/S35 (io), 47 P4.6/S35, 48 P4.5/UCLK1/S36 (io), 48 P4.5/UCLK1/S36, 49 P4.4/SOMI1/S37 (io), 49 P4.4/SOMI1/S37, 50 P4.3/SIMO1/S38 (io), 50 4.3/SIMO1/S38, 51 P4.2/STE1/S39 (io), 51 P4.2/STE1/S39, 52 COM0 (in), 52 COM0, 53 P5.2/COM1 (io), 53 P5.2/COM1, 54 P5.3/COM2 (io), 54 P5.3/COM2, 55 P5.4/COM3 (io), 55 P5.4/COM3, 56 R03, 57 P5.5/R13, 58 P5.6/R23, 59 P5.7/R33, 60 DVCC2, 61 DVSS2, 62 P4.1/URXD1 (io), 62 P4.1/URXD1, 63 P4.0/UTXD1 (io), 63 P4.0/UTXD1, 64 P3.7/TB6 (io), 64 P3.7/TB6, 65 P3.6/TB5 (io), 65 P3.6/TB5, 66 P3.5/TB4 (io), 66 P3.5/TB4, 67 P3.4/TB3 (io), 67 P3.4/TB3, 68 P3.3/UCLK0 (io), 68 P3.3/UCLK0, 69 P3.2/SOMI0 (io), 69 P3.2/SOMI0, 70 P3.1/SIMO0 (io), 70 P3.1/SIMO0, 71 P3.0/STE0 (io), 71 P3.0/STE0, 72 P2.7/ADC12CLK (io), 72 P2.7/ADC12CLK, 73 P2.6/CAOUT (io), 73 P2.6/CAOUT, 74 P2.5/URXD0 (io), 74 P2.5/URXD0, 75 P2.4/UTXD0 (io), 75 P2.4/UTXD0, 76 P2.3/TB2 (io), 76 P2.3/TB2, 77 P2.2/TB1 (io), 77 P2.2/TB1, 78 P2.1/TB0 (io), 78 P2.1/TB0, 79 P2.0/TA2 (io), 79 P2.0/TA2, 80 P1.7/CA1 (io), 80 P1.7/CA1, 81 P1.6/CA0 (io), 81 P1.6/CA0, 82 P1.5/TACLK/ACLK (io), 82 P1.5/TACLK/ACLK, 83 P1.4/TBCLK/SMCLK (io), 83 P1.4/TBCLK/SMCLK, 84 P1.3/TBOUTH/SVSOUT (io), 84 P1.3/TBOUTH/SVSOUT, 85 P1.2/TA1 (io), 85 P1.2/TA1, 86 P1.1/TA0/MCLK (io), 87 P1.0/TA0 (io), 88 XT2OUT, 88 XT2OUT, 89 XT2IN, 89 XT2IN, 90 TDO/TDI, 91 TDI, 92 TMS, 93 TCK (io), 94 ~{RST}/NMI, 95 P6.0/A0 (io), 95 P6.0/A0, 96 P6.1/A1 (io), 96 P6.1/A1, 97 P6.2/A2 (io), 97 P6.2/A2, 98 AVSS, 99 DVSS1, 100 AVCC
part B pins: 1 DVcc1 (power), 56 R03 (in), 57 P5.5/R13 (io), 58 P5.6/R23 (io), 59 P5.7/R33 (io), 60 DVcc2, 61 DVss2, 98 AVss, 99 DVss1, 100 AVcc (power)

## MSP430F449IPZR
designator U?
Pb-free,16位MSP430单片机,MSP430F449IPZR,8MHz工作频率,160段液晶接口（4*36）,2个16位定时中断,12位ADC,16*16乘法器,60KBFlash,2KBSRAM,GPIO：56,LQRF100,-40~85°C,TI; Part Number: 3DZ0020094; Specification: Pb-free,16位MSP430单片机,MSP430F449IPZR,8MHz工作频率,160段液晶接口（4*36）,2个16位定时中断,12位ADC,16*16乘法器,60KBFlash,2KBSRAM,GPIO：56,LQRF100,-40~85°C,TI; Value: MSP430F449IPZR
footprint TQFP-100-0.5 (Thin QFP, 100-Leads, Body 14x14mm, Pitch 0.5mm, IPC Low Density)
pins: 1 DVcc1 (power), 2 P6.3/A3 (io), 2 P6.3/A3 (io), 3 P6.4/A4 (io), 3 P6.4/A4 (io), 4 P6.5/A5 (io), 4 P6.5/A5 (io), 5 P6.6/A6 (io), 5 P6.6/A6 (io), 6 P6.7/A7/SVSin (io), 6 P6.7/A7/SVSin (io), 7 VREF+ (out), 7 VREF+ (out), 8 XIN, 8 XIN, 9 XOUT/TCLK, 9 XOUT/TCLK, 10 VeREF+ (in), 10 VeREF+ (in), 11 VREF-/VeREF- (in), 11 VREF-/VeREF- (in), 12 P5.1/S0 (io), 12 P5.1/S0 (io), 13 P5.0/S1 (io), 13 P5.0/S1 (io), 14 S2 (out), 14 S2 (out), 15 S3 (out), 15 S3 (out), 16 S4 (out), 16 S4 (out), 17 S5 (out), 17 S5 (out), 18 S6 (out), 18 S6 (out), 19 S7 (out), 19 S7 (out), 20 S8 (out), 20 S8 (out), 21 S9 (out), 21 S9 (out), 22 S10 (out), 22 S10 (out), 23 S11 (out), 23 S11 (out), 24 S12 (out), 24 S12 (out), 25 S13 (out), 25 S13 (out), 26 S14 (out), 26 S14 (out), 27 S15 (out), 27 S15 (out), 28 S16 (out), 28 S16 (out), 29 S17 (out), 29 S17 (out), 30 S18 (out), 30 S18 (out), 31 S19 (out), 31 S19 (out), 32 S20 (out), 32 S20 (out), 33 S21 (out), 33 S21 (out), 34 S22 (out), 34 S22 (out), 35 S23 (out), 35 S23 (out), 36 S24 (out), 36 S24 (out), 37 S25 (out), 37 S25 (out), 38 S26 (out), 38 S26 (out), 39 S27 (out), 39 S27 (out), 40 S28 (out), 40 S28 (out), 41 S29 (out), 41 S29 (out), 42 S30 (out), 42 S30 (out), 43 S31 (out), 43 S31 (out), 44 S32 (out), 44 S32 (out), 45 S33 (out), 45 S33 (out), 46 P4.7/S34 (io), 46 P4.7/S34 (io), 47 P4.6/S35 (io), 47 P4.6/S35 (io), 48 P4.5/UCLK1/S36 (io), 48 P4.5/UCLK1/S36 (io), 49 P4.4/SOMI1/S37 (io), 49 P4.4/SOMI1/S37 (io), 50 P4.3/SIMO1/S38 (io), 50 P4.3/SIMO1/S38 (io), 51 P4.2/STE1/S39 (io), 51 P4.2/STE1/S39 (io), 52 COM0 (in), 52 COM0 (in), 53 P5.2/COM1 (io), 53 P5.2/COM1 (io), 54 P5.3/COM2 (io), 54 P5.3/COM2 (io), 55 P5.4/COM3 (io), 55 P5.4/COM3 (io), 56 R03 (in), 57 P5.5/R13 (io), 58 P5.6/R23 (io), 59 P5.7/R33 (io), 60 DVcc2, 61 DVss2, 62 P4.1/URXD1 (io), 62 P4.1/URXD1 (io), 63 P4.0/UTXD1 (io), 63 P4.0/UTXD1 (io), 64 P3.7/TB6 (io), 64 P3.7/TB6 (io), 65 P3.6/TB5 (io), 65 P3.6/TB5 (io), 66 P3.5/TB4 (io), 66 P3.5/TB4 (io), 67 P3.4/TB3 (io), 67 P3.4/TB3 (io), 68 P3.3/UCLK0 (io), 68 P3.3/UCLK0 (io), 69 P3.2/SOMI0 (io), 69 P3.2/SOMI0 (io), 70 P3.1/SIMO0 (io), 70 P3.1/SIMO0 (io), 71 P3.0/STE0 (io), 71 P3.0/STE0 (io), 72 P2.7/ADC12CLK (io), 72 P2.7/ADC12CLK (io), 73 P2.6/CAOUT (io), 73 P2.6/CAOUT (io), 74 P2.5/URXD0 (io), 74 P2.5/URXD0 (io), 75 P2.4/UTXD0 (io), 75 P2.4/UTXD0 (io), 76 P2.3/TB2 (io), 76 P2.3/TB2 (io), 77 P2.2/TB1 (io), 77 P2.2/TB1 (io), 78 P2.1/TB0 (io), 78 P2.1/TB0 (io), 79 P2.0/TA2 (io), 79 P2.0/TA2 (io), 80 P1.7/CA1 (io), 80 P1.7/CA1 (io), 81 P1.6/CA0 (io), 81 P1.6/CA0 (io), 82 P1.5/TACLK/ACLK (io), 82 P1.5/TACLK/ACLK (io), 83 P1.4/TBCLK/SMCLK (io), 83 P1.4/TBCLK/SMCLK (io), 84 P1.3/TBOUTH/SVSOUT (io), 84 P1.3/TBOUTH/SVSOUT (io), 85 P1.2/TA1 (io), 85 P1.2/TA1 (io), 86 P1.1/TA0/MCLK (io), 86 P1.1/TA0/MCLK (io), 87 P1.0/TA0 (io), 87 P1.0/TA0 (io), 88 XT2OUT, 88 XT2OUT, 89 XT2IN, 89 XT2IN, 90 TDO/TDI, 91 TDI, 92 TMS, 93 TCK (io), 94 ~{RST}/NMI, 95 P6.0/A0 (io), 96 P6.1/A1 (io), 97 P6.2/A2 (io), 98 AVss, 99 DVss1, 100 AVcc (power)

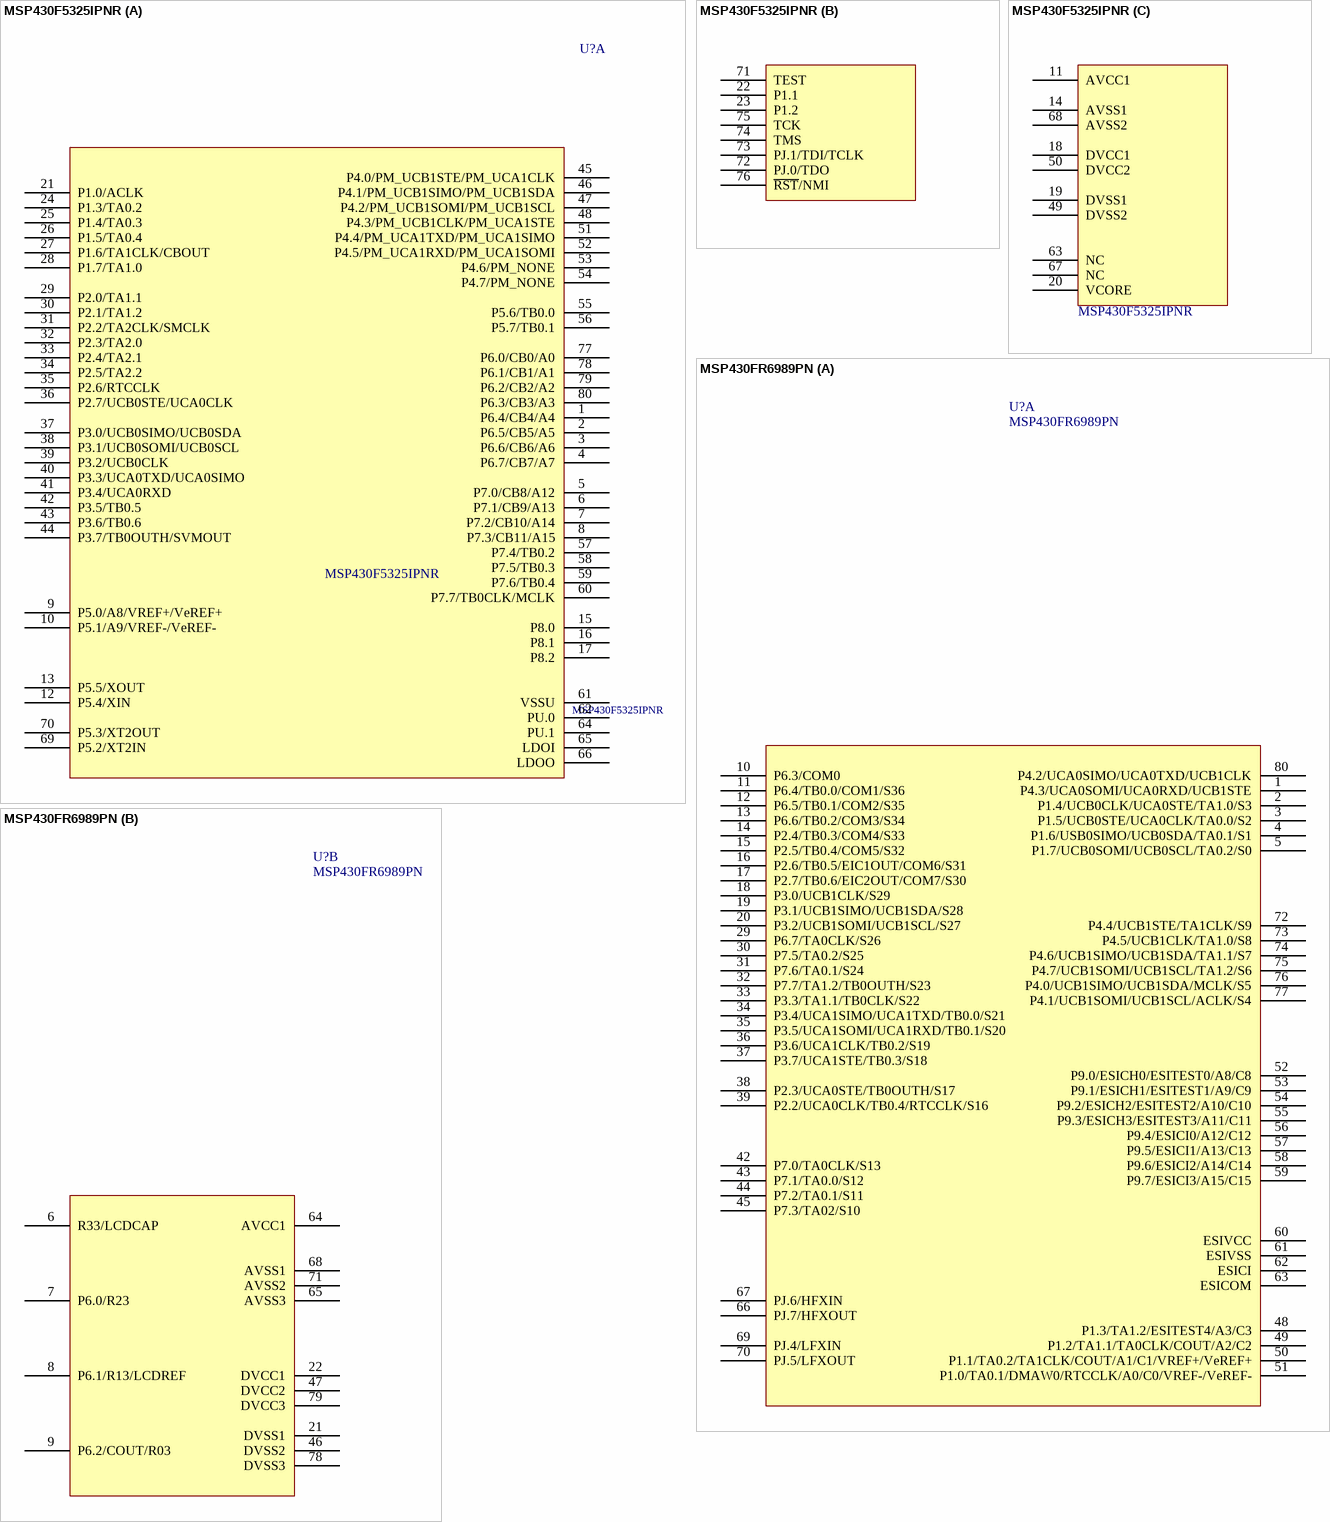
[diagram p5: symbols MSP430F5325IPNR to MSP430FR6989PN]

## MSP430F5325IPNR
designator U?
Pb-free,16位MSP430单片机,MSP430F5325IPNR,25MHz工作频率,4个16位定时器,12位ADC(16ch),32*32乘法器,64KBFlash,4KBSRAM,GPIO：63,LQRF80,-40~85°C,TI; Part Number: 3DZ0020095; Specification: Pb-free,16位MSP430单片机,MSP430F5325IPNR,25MHz工作频率,4个16位定时器,12位ADC(16ch),32*32乘法器,64KBFlash,4KBSRAM,GPIO：63,LQRF80,-40~85°C,TI; Value: MSP430F5325IPNR
footprint TQFP-80-0.5 (Thin QFP, 80-Leads, Body 12x12mm, Pitch 0.5mm, IPC Low Density)
part A pins: 1 P6.4/CB4/A4, 2 P6.5/CB5/A5, 3 P6.6/CB6/A6, 4 P6.7/CB7/A7, 5 P7.0/CB8/A12, 6 P7.1/CB9/A13, 7 P7.2/CB10/A14, 8 P7.3/CB11/A15, 9 P5.0/A8/VREF+/VeREF+, 10 P5.1/A9/VREF-/VeREF-, 12 P5.4/XIN, 13 P5.5/XOUT, 15 P8.0, 16 P8.1, 17 P8.2, 21 P1.0/ACLK, 24 P1.3/TA0.2, 25 P1.4/TA0.3, 26 P1.5/TA0.4, 27 P1.6/TA1CLK/CBOUT, 28 P1.7/TA1.0, 29 P2.0/TA1.1, 30 P2.1/TA1.2, 31 P2.2/TA2CLK/SMCLK, 32 P2.3/TA2.0, 33 P2.4/TA2.1, 34 P2.5/TA2.2, 35 P2.6/RTCCLK, 36 P2.7/UCB0STE/UCA0CLK, 37 P3.0/UCB0SIMO/UCB0SDA, 38 P3.1/UCB0SOMI/UCB0SCL, 39 P3.2/UCB0CLK, 40 P3.3/UCA0TXD/UCA0SIMO, 41 P3.4/UCA0RXD, 42 P3.5/TB0.5, 43 P3.6/TB0.6, 44 P3.7/TB0OUTH/SVMOUT, 45 P4.0/PM_UCB1STE/PM_UCA1CLK, 46 P4.1/PM_UCB1SIMO/PM_UCB1SDA, 47 P4.2/PM_UCB1SOMI/PM_UCB1SCL, 48 P4.3/PM_UCB1CLK/PM_UCA1STE, 51 P4.4/PM_UCA1TXD/PM_UCA1SIMO, 52 P4.5/PM_UCA1RXD/PM_UCA1SOMI, 53 P4.6/PM_NONE, 54 P4.7/PM_NONE, 55 P5.6/TB0.0, 56 P5.7/TB0.1, 57 P7.4/TB0.2, 58 P7.5/TB0.3, 59 P7.6/TB0.4, 60 P7.7/TB0CLK/MCLK, 61 VSSU, 62 PU.0, 64 PU.1, 65 LDOI, 66 LDOO, 69 P5.2/XT2IN, 70 P5.3/XT2OUT, 77 P6.0/CB0/A0, 78 P6.1/CB1/A1, 79 P6.2/CB2/A2, 80 P6.3/CB3/A3
part B pins: 22 P1.1, 23 P1.2, 71 TEST, 72 PJ.0/TDO, 73 PJ.1/TDI/TCLK, 74 TMS, 75 TCK, 76 ~{RST}/NMI
part C pins: 11 AVCC1, 14 AVSS1, 18 DVCC1, 19 DVSS1, 20 VCORE, 49 DVSS2, 50 DVCC2, 63 NC, 67 NC, 68 AVSS2
2 alternate drawings of the same symbol

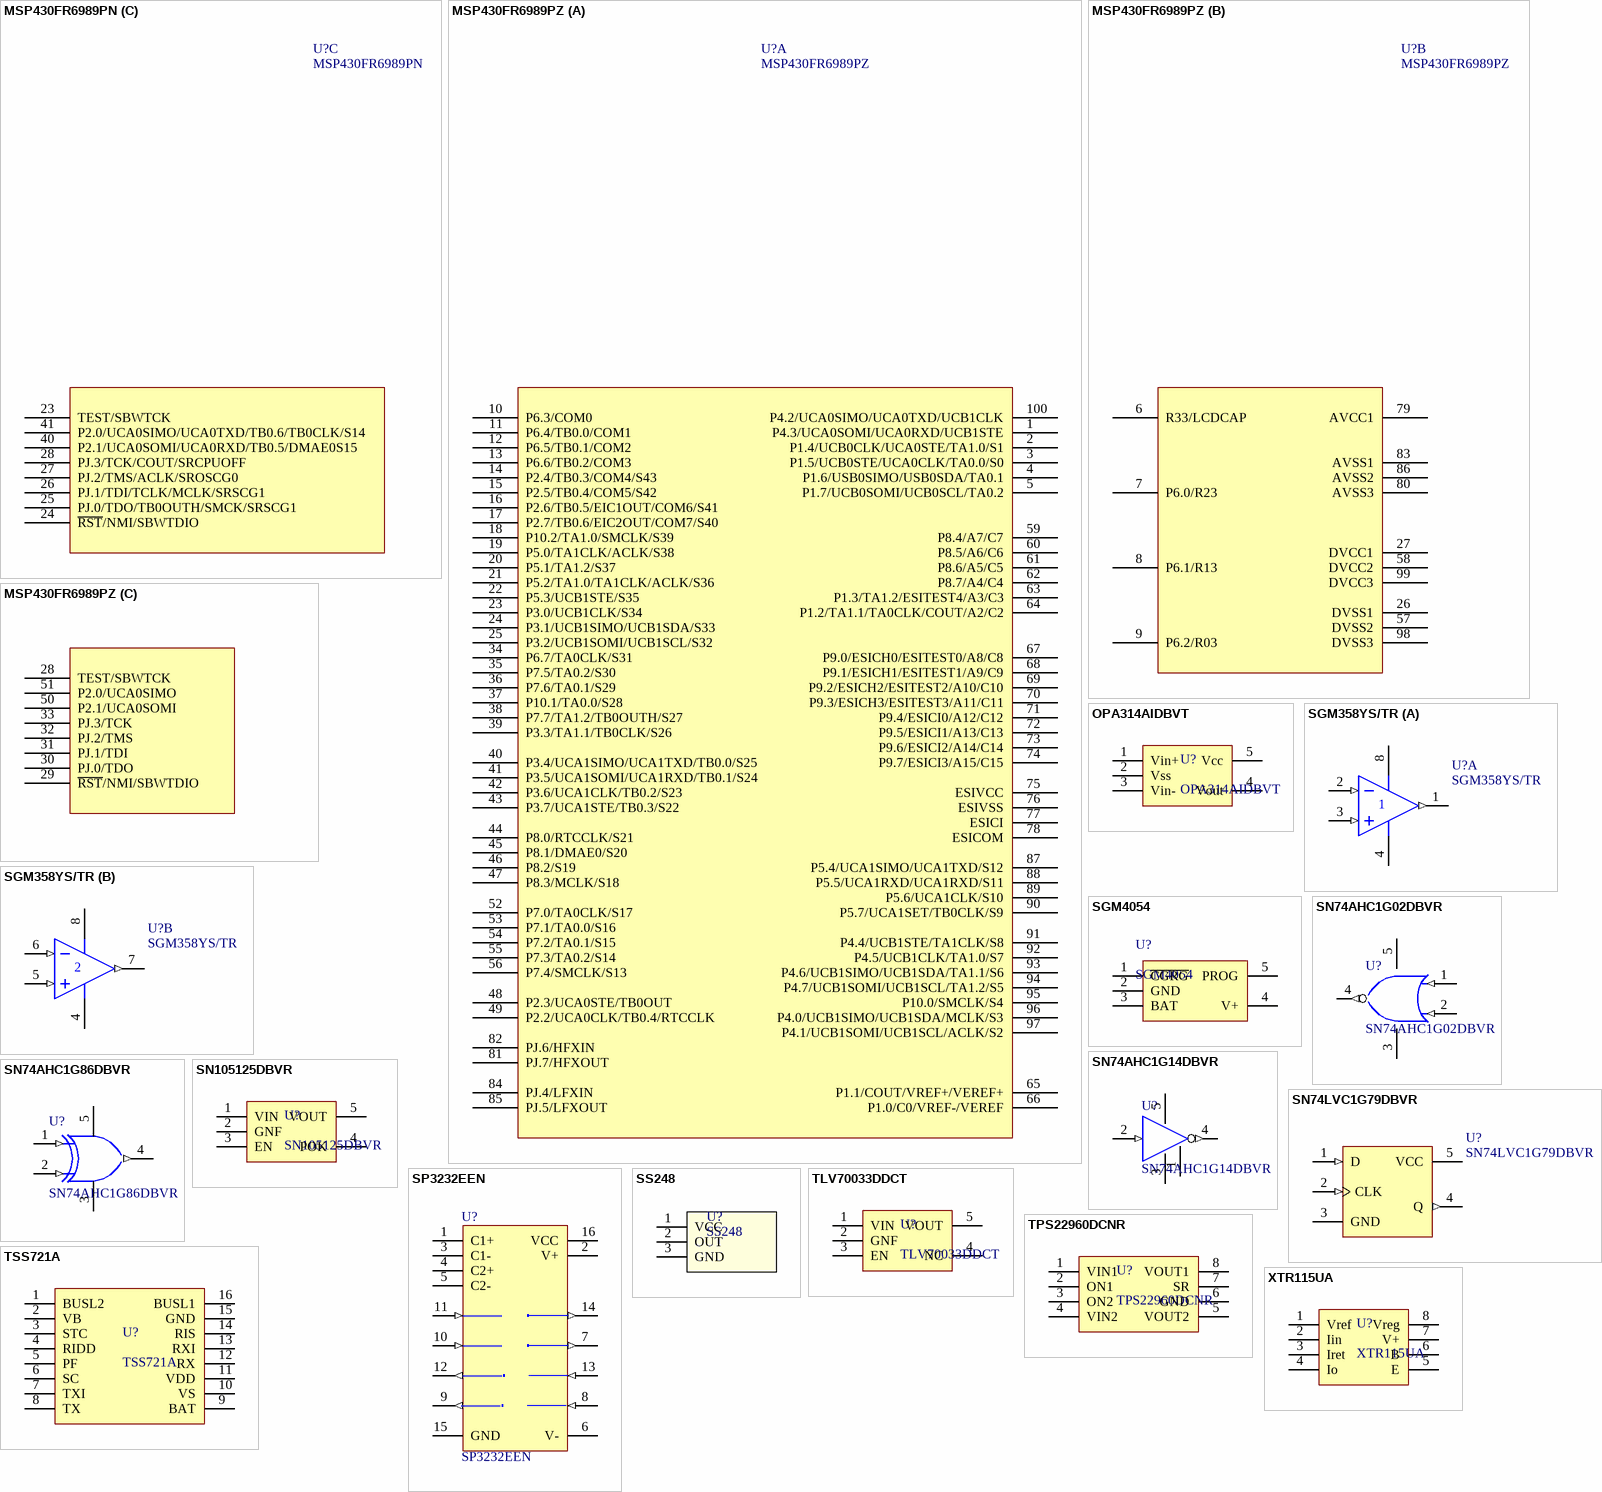
[diagram p6: symbols MSP430FR6989PN to XTR115UA]

## MSP430FR6989PN
designator U?
footprint TQFP-80-0.5 (Thin QFP, 80-Leads, Body 12x12mm, Pitch 0.5mm, IPC Low Density)
part A pins: 1 P4.3/UCA0SOMI/UCA0RXD/UCB1STE, 2 P1.4/UCB0CLK/UCA0STE/TA1.0/S3, 3 P1.5/UCB0STE/UCA0CLK/TA0.0/S2, 4 P1.6/USB0SIMO/UCB0SDA/TA0.1/S1, 5 P1.7/UCB0SOMI/UCB0SCL/TA0.2/S0, 10 P6.3/COM0, 11 P6.4/TB0.0/COM1/S36, 12 P6.5/TB0.1/COM2/S35, 13 P6.6/TB0.2/COM3/S34, 14 P2.4/TB0.3/COM4/S33, 15 P2.5/TB0.4/COM5/S32, 16 P2.6/TB0.5/EIC1OUT/COM6/S31, 17 P2.7/TB0.6/EIC2OUT/COM7/S30, 18 P3.0/UCB1CLK/S29, 19 P3.1/UCB1SIMO/UCB1SDA/S28, 20 P3.2/UCB1SOMI/UCB1SCL/S27, 29 P6.7/TA0CLK/S26, 30 P7.5/TA0.2/S25, 31 P7.6/TA0.1/S24, 32 P7.7/TA1.2/TB0OUTH/S23, 33 P3.3/TA1.1/TB0CLK/S22, 34 P3.4/UCA1SIMO/UCA1TXD/TB0.0/S21, 35 P3.5/UCA1SOMI/UCA1RXD/TB0.1/S20, 36 P3.6/UCA1CLK/TB0.2/S19, 37 P3.7/UCA1STE/TB0.3/S18, 38 P2.3/UCA0STE/TB0OUTH/S17, 39 P2.2/UCA0CLK/TB0.4/RTCCLK/S16, 42 P7.0/TA0CLK/S13, 43 P7.1/TA0.0/S12, 44 P7.2/TA0.1/S11, 45 P7.3/TA02/S10, 48 P1.3/TA1.2/ESITEST4/A3/C3, 49 P1.2/TA1.1/TA0CLK/COUT/A2/C2, 50 P1.1/TA0.2/TA1CLK/COUT/A1/C1/VREF+/VeREF+, 51 P1.0/TA0.1/DMAW0/RTCCLK/A0/C0/VREF-/VeREF-, 52 P9.0/ESICH0/ESITEST0/A8/C8, 53 P9.1/ESICH1/ESITEST1/A9/C9, 54 P9.2/ESICH2/ESITEST2/A10/C10, 55 P9.3/ESICH3/ESITEST3/A11/C11, 56 P9.4/ESICI0/A12/C12, 57 P9.5/ESICI1/A13/C13, 58 P9.6/ESICI2/A14/C14, 59 P9.7/ESICI3/A15/C15, 60 ESIVCC, 61 ESIVSS, 62 ESICI, 63 ESICOM, 66 PJ.7/HFXOUT, 67 PJ.6/HFXIN, 69 PJ.4/LFXIN, 70 PJ.5/LFXOUT, 72 P4.4/UCB1STE/TA1CLK/S9, 73 P4.5/UCB1CLK/TA1.0/S8, 74 P4.6/UCB1SIMO/UCB1SDA/TA1.1/S7, 75 P4.7/UCB1SOMI/UCB1SCL/TA1.2/S6, 76 P4.0/UCB1SIMO/UCB1SDA/MCLK/S5, 77 P4.1/UCB1SOMI/UCB1SCL/ACLK/S4, 80 P4.2/UCA0SIMO/UCA0TXD/UCB1CLK
part B pins: 6 R33/LCDCAP, 7 P6.0/R23, 8 P6.1/R13/LCDREF, 9 P6.2/COUT/R03, 21 DVSS1, 22 DVCC1, 46 DVSS2, 47 DVCC2, 64 AVCC1, 65 AVSS3, 68 AVSS1, 71 AVSS2, 78 DVSS3, 79 DVCC3
part C pins: 23 TEST/SBWTCK, 24 ~{RST}/NMI/SBWTDIO, 25 PJ.0/TDO/TB0OUTH/SMCK/SRSCG1, 26 PJ.1/TDI/TCLK/MCLK/SRSCG1, 27 PJ.2/TMS/ACLK/SROSCG0, 28 PJ.3/TCK/COUT/SRCPUOFF, 40 P2.1/UCA0SOMI/UCA0RXD/TB0.5/DMAE0S15, 41 P2.0/UCA0SIMO/UCA0TXD/TB0.6/TB0CLK/S14

## MSP430FR6989PZ
designator U?
footprint TQFP-80-0.5 (Thin QFP, 80-Leads, Body 12x12mm, Pitch 0.5mm, IPC Low Density)
part A pins: 1 P4.3/UCA0SOMI/UCA0RXD/UCB1STE, 2 P1.4/UCB0CLK/UCA0STE/TA1.0/S1, 3 P1.5/UCB0STE/UCA0CLK/TA0.0/S0, 4 P1.6/USB0SIMO/USB0SDA/TA0.1, 5 P1.7/UCB0SOMI/UCB0SCL/TA0.2, 10 P6.3/COM0, 11 P6.4/TB0.0/COM1, 12 P6.5/TB0.1/COM2, 13 P6.6/TB0.2/COM3, 14 P2.4/TB0.3/COM4/S43, 15 P2.5/TB0.4/COM5/S42, 16 P2.6/TB0.5/EIC1OUT/COM6/S41, 17 P2.7/TB0.6/EIC2OUT/COM7/S40, 18 P10.2/TA1.0/SMCLK/S39, 19 P5.0/TA1CLK/ACLK/S38, 20 P5.1/TA1.2/S37, 21 P5.2/TA1.0/TA1CLK/ACLK/S36, 22 P5.3/UCB1STE/S35, 23 P3.0/UCB1CLK/S34, 24 P3.1/UCB1SIMO/UCB1SDA/S33, 25 P3.2/UCB1SOMI/UCB1SCL/S32, 34 P6.7/TA0CLK/S31, 35 P7.5/TA0.2/S30, 36 P7.6/TA0.1/S29, 37 P10.1/TA0.0/S28, 38 P7.7/TA1.2/TB0OUTH/S27, 39 P3.3/TA1.1/TB0CLK/S26, 40 P3.4/UCA1SIMO/UCA1TXD/TB0.0/S25, 41 P3.5/UCA1SOMI/UCA1RXD/TB0.1/S24, 42 P3.6/UCA1CLK/TB0.2/S23, 43 P3.7/UCA1STE/TB0.3/S22, 44 P8.0/RTCCLK/S21, 45 P8.1/DMAE0/S20, 46 P8.2/S19, 47 P8.3/MCLK/S18, 48 P2.3/UCA0STE/TB0OUT, 49 P2.2/UCA0CLK/TB0.4/RTCCLK, 52 P7.0/TA0CLK/S17, 53 P7.1/TA0.0/S16, 54 P7.2/TA0.1/S15, 55 P7.3/TA0.2/S14, 56 P7.4/SMCLK/S13, 59 P8.4/A7/C7, 60 P8.5/A6/C6, 61 P8.6/A5/C5, 62 P8.7/A4/C4, 63 P1.3/TA1.2/ESITEST4/A3/C3, 64 P1.2/TA1.1/TA0CLK/COUT/A2/C2, 65 P1.1/COUT/VREF+/VEREF+, 66 P1.0/C0/VREF-/VEREF, 67 P9.0/ESICH0/ESITEST0/A8/C8, 68 P9.1/ESICH1/ESITEST1/A9/C9, 69 P9.2/ESICH2/ESITEST2/A10/C10, 70 P9.3/ESICH3/ESITEST3/A11/C11, 71 P9.4/ESICI0/A12/C12, 72 P9.5/ESICI1/A13/C13, 73 P9.6/ESICI2/A14/C14, 74 P9.7/ESICI3/A15/C15, 75 ESIVCC, 76 ESIVSS, 77 ESICI, 78 ESICOM, 81 PJ.7/HFXOUT, 82 PJ.6/HFXIN, 84 PJ.4/LFXIN, 85 PJ.5/LFXOUT, 87 P5.4/UCA1SIMO/UCA1TXD/S12, 88 P5.5/UCA1RXD/UCA1RXD/S11, 89 P5.6/UCA1CLK/S10, 90 P5.7/UCA1SET/TB0CLK/S9, 91 P4.4/UCB1STE/TA1CLK/S8, 92 P4.5/UCB1CLK/TA1.0/S7, 93 P4.6/UCB1SIMO/UCB1SDA/TA1.1/S6, 94 P4.7/UCB1SOMI/UCB1SCL/TA1.2/S5, 95 P10.0/SMCLK/S4, 96 P4.0/UCB1SIMO/UCB1SDA/MCLK/S3, 97 P4.1/UCB1SOMI/UCB1SCL/ACLK/S2, 100 P4.2/UCA0SIMO/UCA0TXD/UCB1CLK
part B pins: 6 R33/LCDCAP, 7 P6.0/R23, 8 P6.1/R13, 9 P6.2/R03, 26 DVSS1, 27 DVCC1, 57 DVSS2, 58 DVCC2, 79 AVCC1, 80 AVSS3, 83 AVSS1, 86 AVSS2, 98 DVSS3, 99 DVCC3
part C pins: 28 TEST/SBWTCK, 29 ~{RST}/NMI/SBWTDIO, 30 PJ.0/TDO, 31 PJ.1/TDI, 32 PJ.2/TMS, 33 PJ.3/TCK, 50 P2.1/UCA0SOMI, 51 P2.0/UCA0SIMO

## OPA314AIDBVT
designator U?
Pb-free,低功耗轨至轨单运放,ADA4853-1AKSZ-R2,带宽:100MHz,低噪运放,电源:+2.65V~+5V,SOT23-6,-40~+85℃,ADI; Part Number: 3DZ0020017; Specification: 'Pb-free,低功耗轨至轨单运放,ADA4853-1AKSZ-R2,带宽:100MHz,低噪运放,电源:+2.65V~+5V,SOT23-6,-40~+85℃,ADI; Value: OPA314AIDBVT
footprint SOT23-6 (SOT-23/SC-74A; 5 Leads; Body 3.1 x 3 mm, inc. leads (LxW max))
pins: 1 Vin+, 2 Vss, 3 Vin-, 4 Vout, 5 Vcc

## SGM358YS/TR
designator U?
Pb-free,双路低电压轨至轨输出运算放大器,SGM358YS/TR,带宽:1MHz,电源:(单)+2.1~+5.5V,SO-8,-45~+85℃,圣邦微电子; Part Number: 3DZ0020055; Specification: Pb-free,双路低电压轨至轨输出运算放大器,SGM358YS/TR,带宽:1MHz,电源:(单)+2.1~+5.5V,SO-8,-45~+85℃,圣邦微电子; Value: SGM358YS/TR
footprint SO-8 (Small Outline; 8 Leads; Body Width 3.9 mm; Pitch 1.27 mm)
pins on every part: 4 V- (power), 8 V+ (power)
part A pins: 1 OUT (out), 2 IN- (in), 3 IN+ (in)
part B pins: 5 IN+ (in), 6 IN- (in), 7 OUT (out)

## SGM4054
designator U?
Pb-free,锂电池充电芯片,SGM4054-S0732,单电池,带有温度检测,Iout=500mA,Vin=4.25~6.5v,SOT23-5,-40~85°C,圣邦微电子; Part Number: 3DZ0020087; Value: SGM4054; Specification: Pb-free,锂电池充电芯片,SGM4054-S0732,单电池,带有温度检测,Iout=500mA,Vin=4.25~6.5v,SOT23-5,-40~85°C,圣邦微电子
footprint SOT23-5 (SOT-23/SC-74A; 5 Leads; Body 3.1 x 3 mm, inc. leads (LxW max))
pins: 1 ~{CGRG}, 2 GND, 3 BAT, 4 V+, 5 PROG

## SN74AHC1G02DBVR
designator U?
Pb-free,74HC系列1路2输入或非门,SN74AHC1G02DBVR,SO23-5,-40~+125℃,TI; Value: SN74AHC1G02DBVR; specification: Pb-free,74HC系列1路2输入或非门,SN74AHC1G02DBVR,SO23-5,-40~+125℃,TI
footprint SOT23-5 (SOT-23/SC-74A; 5 Leads; Body 3.1 x 3 mm, inc. leads (LxW max))
pins: 1 B (in), 2 A (in), 3 Gnd (power), 4 Y (out), 5 Vcc (power)

## SN74AHC1G14DBVR
designator U?
Pb-free,74HC系列1路施密特触发器,SN74AHC1G14DBVR,SOT23-5,-40~+125℃,TI; Part Number: 3DZ0020006; Value: SN74AHC1G14DBVR; specification: Pb-free,74HC系列1路施密特触发器,SN74AHC1G14DBVR,SOT23-5,-40~+125℃,TI
footprint SOT23-5 (SOT-23/SC-74A; 5 Leads; Body 3.1 x 3 mm, inc. leads (LxW max))
pins: 1 NC (hiz), 2 A (in), 3 Gnd (power), 4 Y (out), 5 Vcc (power)

## SN74AHC1G86DBVR
designator U?
Pb-free,74HC系列1路异或门器,SN74AHC1G86DBVR,SOT-23-5,-40~+85℃,TI; Part Number: 3DZ0020007; Specification: Pb-free,74HC系列1路异或门器,SN74AHC1G86DBVR,SOT-23-5,-40~+85℃,TI; Value: SN74AHC1G86DBVR
footprint SOT23-5 (SOT-23/SC-74A; 5 Leads; Body 3.1 x 3 mm, inc. leads (LxW max))
pins: 1 A (in), 2 B (in), 3 Gnd (power), 4 Y (out), 5 Vcc (power)

## SN74LVC1G79DBVR
designator U?
Pb-free,74LVC系列1路D触发器,SN74LVC1G79DBVR,SOT-23-5,-40~+125℃,TI; Part Number: 3DZ0020057; specification: Pb-free,74LVC系列1路D触发器,SN74LVC1G79DBVR,SOT-23-5,-40~+125℃,TI; Value: SN74LVC1G79DBVR
footprint SOT23-5 (SOT-23/SC-74A; 5 Leads; Body 3.1 x 3 mm, inc. leads (LxW max))
pins: 1 D (in), 2 CLK (in), 3 GND (power), 4 Q (out), 5 VCC (power)

## SN105125DBVR
designator U?
Pb-free,低压差LDO,SN105125DBVR,150mA,SOT23-5,?40°C~+125°C,TI; Part Number: 3DZ0020083; Value: SN105125DBVR; Specification: Pb-free,低压差LDO,SN105125DBVR,150mA,SOT23-5,?40°C~+125°C,TI
footprint SOT23-5 (SOT-23/SC-74A; 5 Leads; Body 3.1 x 3 mm, inc. leads (LxW max))
pins: 1 VIN, 2 GNF, 3 EN, 4 POK, 5 VOUT

## SP3232EEN
designator U?
Pb-free,232通讯芯片,SP3232EEN,VCC=+3.0~+5.5V,SO-16,-40~+85℃,Sipex; Part Number: 3DZ0020059; Specification: Pb-free,232通讯芯片,SP3232EEN,VCC=+3.0~+5.5V,SO-16,-40~+85℃,Sipex; Value: SP3232EEN
footprint SO-16 (Small Outline; 16 Leads; Body Width 5.6 mm; Pitch 1.27 mm)
footprint WSO16_L (SOIC, 16-Leads, Body 10.3x7.5mm, Pitch 1.27mm, IPC High Density)
footprint WSO16_M (SOIC, 16-Leads, Body 10.3x7.5mm, Pitch 1.27mm, IPC Low Density)
pins: 1 C1+, 2 V+ (power), 3 C1-, 4 C2+, 5 C2-, 6 V- (power), 7 T2OUT (out), 8 R2IN (in), 9 R2OUT (out), 10 T2IN (in), 11 T1IN (in), 12 R1OUT (out), 13 R1IN (in), 14 T1OUT (out), 15 GND (power), 16 VCC (power)

## SS248
designator U?
Pb-free,高灵敏度低功耗霍尔开关,SS248,供电电压:2.5~3.5V,VSAT=0.4V(1mA),SOT23,-40~85℃; Part Number: 3DZ9990108; Specification: Pb-free,高灵敏度低功耗霍尔开关,SS248,供电电压:2.5~3.5V,VSAT=0.4V(1mA),SOT23,-40~85℃; Value: SS248
footprint SOT23A (SOT-23; 3 Leads; Body 3.0 x 2.5 mm, inc. leads (LxW max))
pins: 1 VCC, 2 OUT, 3 GND

## TLV70033DDCT
designator U?
Pb-free,低压差LDO,TLV70033DDCT,200mA,SOT-23-5,?40°C~+125°C,TI; Part Number: 3DZ0020077; Value: TLV70033DDCT; Specification: Pb-free,低压差LDO,TLV70033DDCT,200mA,SOT-23-5,?40°C~+125°C,TI
footprint SOT23-5 (SOT-23/SC-74A; 5 Leads; Body 3.1 x 3 mm, inc. leads (LxW max))
pins: 1 VIN, 2 GNF, 3 EN, 4 NC, 5 VOUT

## TPS22960DCNR
designator U?
Pb-free,低压差LDO,SN105125DBVR,150mA,SOT23-5,?40°C~+125°C,TI; Part Number: 3DZ0020084; Specification: Pb-free,低输入电压双路负载开关,TPS22960DCNR,Vin=-0.3~6V,Vout=Vin+0.3V,SOT23-8,?40°C~+85°C,TI; Value: TPS22960DCNR
footprint SOT23-8 (Footprint not found)
pins: 1 VIN1, 2 ON1, 3 ON2, 4 VIN2, 5 VOUT2, 6 GND, 7 SR, 8 VOUT1

## TSS721A
designator U?
Pb-free,M-bus通讯芯片,TSS721A,SO-16,-25~+85℃,TI; Part Number: 3DZ0020065; Specification: Pb-free,M-bus通讯芯片,TSS721A,SO-16,-25~+85℃,TI; Value: TSS721A
footprint SO-16 (Small Outline; 16 Leads; Body Width 5.6 mm; Pitch 1.27 mm)
pins: 1 BUSL2, 2 VB, 3 STC, 4 RIDD, 5 PF, 6 SC, 7 TXI, 8 TX, 9 BAT, 10 VS, 11 VDD, 12 RX, 13 RXI, 14 RIS, 15 GND, 16 BUSL1

## XTR115UA
designator U?
Pb-free,4-20mA电流环路发送器,XTR115UA,Vcc=7.5V~36V,SO-8,-55~+125℃,TI; Part Number: 3DZ0020067; Value: XTR115UA; Specification: Pb-free,4-20mA电流环路发送器,XTR115UA,Vcc=7.5V~36V,SO-8,-55~+125℃,TI
footprint SO-8 (Small Outline; 8 Leads; Body Width 3.9 mm; Pitch 1.27 mm)
pins: 1 Vref, 2 Iin, 3 Iret, 4 Io, 5 E, 6 B, 7 V+, 8 Vreg